# Altium schematic symbol library MY.SchLib: 652 symbols (part 3 of 7)
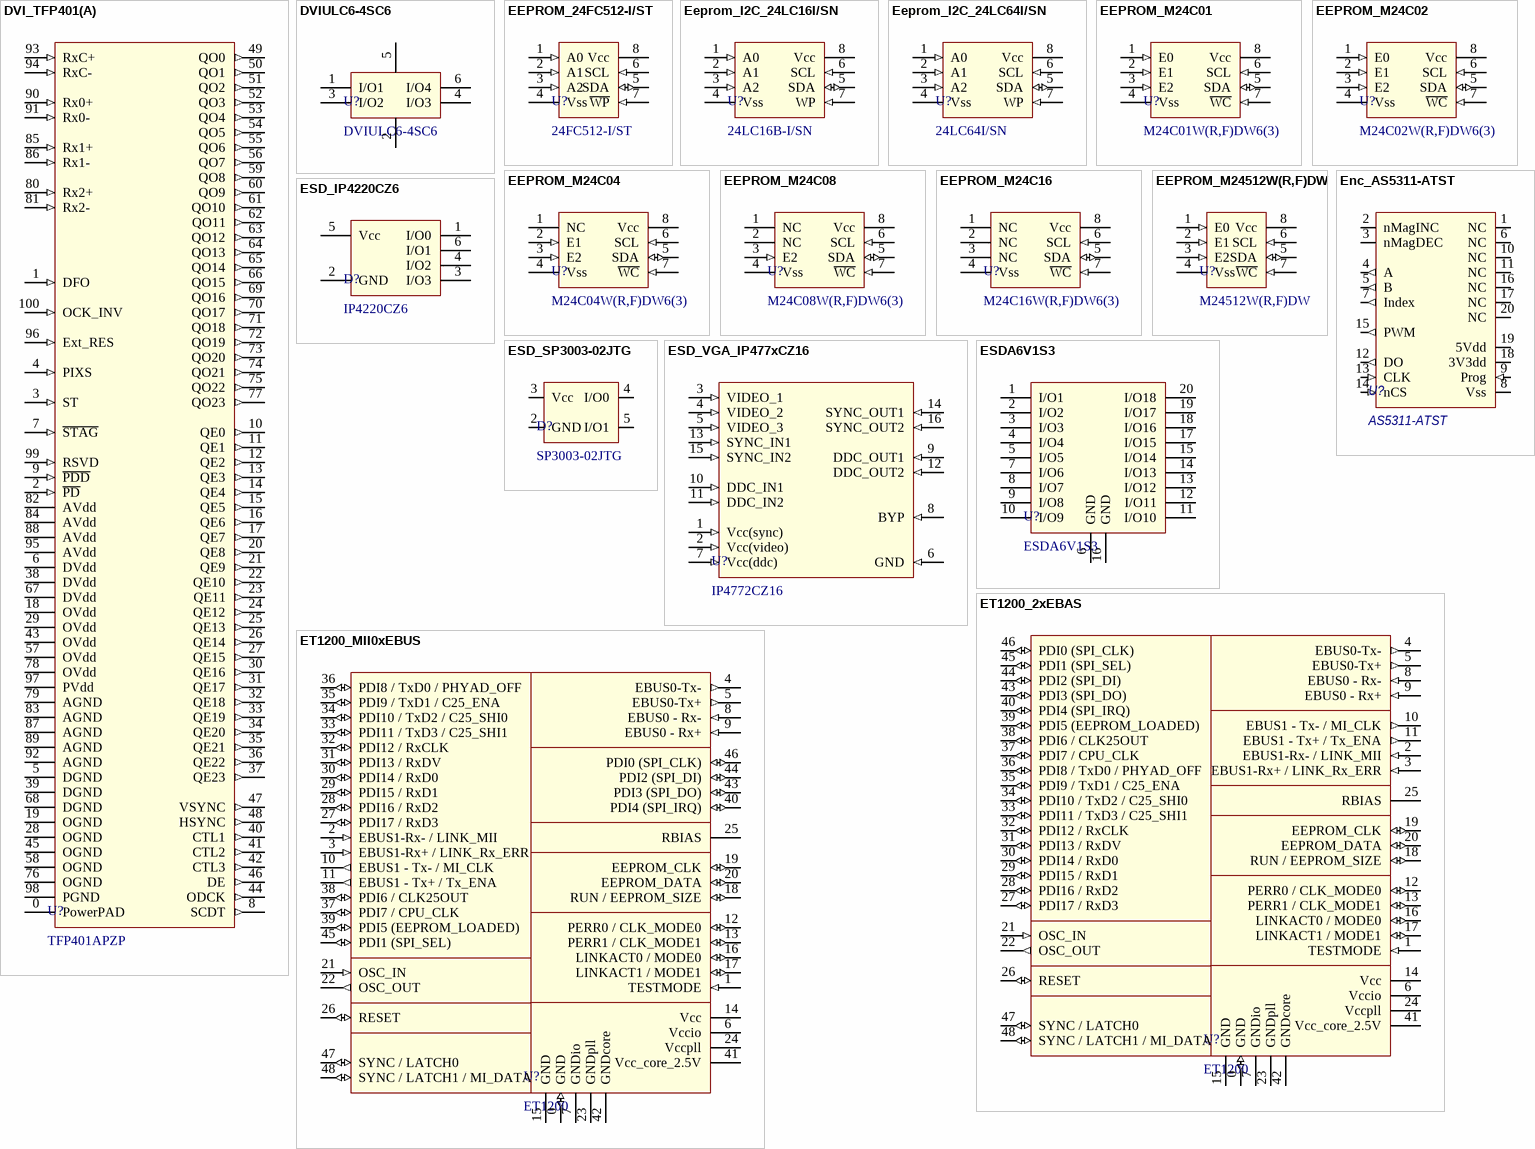
[diagram p43: symbols DVI_TFP401(A) to ET1200_MII0xEBUS]

## Eeprom_I2C_24LC16I/SN
designator U?, comment 24LC16B-I/SN
Analog: 24LC16BT-I/SN
footprint SO8
pins: 1 A0 (in), 2 A1 (in), 3 A2 (in), 4 Vss (power), 5 SDA (io), 6 SCL (in), 7 WP (in), 8 Vcc (power)

## Eeprom_I2C_24LC64I/SN
designator U?, comment 24LC64I/SN
footprint SO8
pins: 1 A0 (in), 2 A1 (in), 3 A2 (in), 4 Vss (power), 5 SDA (io), 6 SCL (in), 7 WP (in), 8 Vcc (power)

## EEPROM_M24C01
designator U?, comment M24C01W(R,F)DW6(3)
footprint TSSOP8
pins: 1 E0 (in), 2 E1 (in), 3 E2 (in), 4 Vss (power), 5 SDA (io), 6 SCL (in), 7 ~{WC} (in), 8 Vcc (power)

## EEPROM_M24C02
designator U?, comment M24C02W(R,F)DW6(3)
footprint TSSOP8
pins: 1 E0 (in), 2 E1 (in), 3 E2 (in), 4 Vss (power), 5 SDA (io), 6 SCL (in), 7 ~{WC} (in), 8 Vcc (power)

## EEPROM_M24C04
designator U?, comment M24C04W(R,F)DW6(3)
footprint TSSOP8
pins: 1 NC, 2 E1 (in), 3 E2 (in), 4 Vss (power), 5 SDA (io), 6 SCL (in), 7 ~{WC} (in), 8 Vcc (power)

## EEPROM_M24C08
designator U?, comment M24C08W(R,F)DW6(3)
Analog: M24512W(R,F)DW;
footprint TSSOP8
pins: 1 NC, 2 NC, 3 E2 (in), 4 Vss (power), 5 SDA (io), 6 SCL (in), 7 ~{WC} (in), 8 Vcc (power)

## EEPROM_M24C16
designator U?, comment M24C16W(R,F)DW6(3)
footprint TSSOP8
pins: 1 NC, 2 NC, 3 NC, 4 Vss (power), 5 SDA (io), 6 SCL (in), 7 ~{WC} (in), 8 Vcc (power)

## EEPROM_M24512W(R,F)DW
designator U?, comment M24512W(R,F)DW
I2C_address: 1010(e2e1e0);1011(e2e1e0);; HelpURL: L:\Dev\Техническая документация\Память\EEPROM\M24512W.pdf
footprint TSSOP8
pins: 1 E0 (in), 2 E1 (in), 3 E2 (in), 4 Vss (power), 5 SDA (io), 6 SCL (in), 7 ~{WC} (in), 8 Vcc (power)

## Enc_AS5311-ATST
designator U?, comment AS5311-ATST
HelpURL: L:\Dev\Техническая документация\Микросхемы энкодеров\AMS\as5311_datasheet.pdf; ComponentLink1Description: EK_UserManual; ComponentLink1URL: L:\Dev\Техническая документация\Микросхемы энкодеров\AMS\AS5311-TS_EK_AB_UserManual.pdf; ComponentLink2Description: MagnetSpecReference; ComponentLink2URL: L:\Dev\Техническая документация\Микросхемы энкодеров\AMS\AS5311_MagnetSpecification.pdf
footprint TSSOP20_AS5311
pins: 1 NC, 2 nMagINC (oc), 3 nMagDEC (oc), 4 A (out), 5 B (out), 6 NC, 7 Index (out), 8 Vss (power), 9 Prog (in), 10 NC, 11 NC, 12 DO (out), 13 CLK (in), 14 nCS (in), 15 PWM (out), 16 NC, 17 NC, 18 3V3dd (power), 19 5Vdd (power), 20 NC

## ESD_IP4220CZ6
designator D?, comment IP4220CZ6
HelpURL: L:\Dev\Техническая документация\Защита цепей\ESD\IP4220CZ6(USB).pdf
footprint SOT23-6
pins: 1 I/O0, 2 GND, 3 I/O3, 4 I/O2, 5 Vcc, 6 I/O1

## ESD_SP3003-02JTG
designator D?, comment SP3003-02JTG
HelpURL: L:\Unicont SPb\Equipment\Техническая документация\Защита цепей\ESD\IP4220CZ6(USB).pdf
footprint SC-70-5
pins: 1 hidden, 2 GND, 3 Vcc, 4 I/O0, 5 I/O1

## ESD_VGA_IP477xCZ16
designator U?, comment IP4772CZ16
HelpURL: L:\Unicont SPb\Equipment\Техническая документация\Защита цепей\ESD\IP4770_1_2_VGA.pdf
footprint SSOP16_SOT519-1_NXP
pins: 1 Vcc(sync) (in) "PCIe Graphics Enable, 3.3V", 2 Vcc(video) (in) "PCIe Graphics Enable, 3.3V", 3 VIDEO_1 (in) "PCIe Graphics Enable, 3.3V", 4 VIDEO_2 (in) "PCIe Graphics Enable, 3.3V", 5 VIDEO_3 (in) "PCIe Graphics Enable, 3.3V", 6 GND (in) "PCIe Graphics Enable, 3.3V", 7 Vcc(ddc) (in) "PCIe Graphics Enable, 3.3V", 8 BYP (in) "PCIe Graphics Enable, 3.3V", 9 DDC_OUT1 (in) "PCIe Graphics Enable, 3.3V", 10 DDC_IN1 (in) "PCIe Graphics Enable, 3.3V", 11 DDC_IN2 (in) "PCIe Graphics Enable, 3.3V", 12 DDC_OUT2 (in) "PCIe Graphics Enable, 3.3V", 13 SYNC_IN1 (in) "PCIe Graphics Enable, 3.3V", 14 SYNC_OUT1 (in) "PCIe Graphics Enable, 3.3V", 15 SYNC_IN2 (in) "PCIe Graphics Enable, 3.3V", 16 SYNC_OUT2 (in) "PCIe Graphics Enable, 3.3V"

## ESDA6V1S3
designator U?
Analog: BZA100
footprint SO20
pins: 1 I/O1, 2 I/O2, 3 I/O3, 4 I/O4, 5 I/O5, 6 GND, 7 I/O6, 8 I/O7, 9 I/O8, 10 I/O9, 11 I/O10, 12 I/O11, 13 I/O12, 14 I/O13, 15 I/O14, 16 GND, 17 I/O15, 18 I/O16, 19 I/O17, 20 I/O18

## ET1200_2xEBAS
designator U?, comment ET1200
footprint QFN48_ET1200
pins: 0 GND (io), 1 TESTMODE (in), 2 EBUS1-Rx- / LINK_MII (in), 3 EBUS1-Rx+ / LINK_Rx_ERR (in), 4 EBUS0-Tx- (out), 5 EBUS0-Tx+ (out), 6 Vccio (power), 7 GNDio (power), 8 EBUS0 - Rx- (in), 9 EBUS0 - Rx+ (in), 10 EBUS1 - Tx- / MI_CLK (out), 11 EBUS1 - Tx+ / Tx_ENA (out), 12 PERR0 / CLK_MODE0 (io), 13 PERR1 / CLK_MODE1 (io), 14 Vcc (power), 15 GND (power), 16 LINKACT0 / MODE0 (io), 17 LINKACT1 / MODE1 (io), 18 RUN / EEPROM_SIZE (io), 19 EEPROM_CLK (io), 20 EEPROM_DATA (io), 21 OSC_IN (in), 22 OSC_OUT (out), 23 GNDpll (power), 24 Vccpll (power), 25 RBIAS (power), 26 RESET (io), 27 PDI17 / RxD3 (io), 28 PDI16 / RxD2 (io), 29 PDI15 / RxD1 (io), 30 PDI14 / RxD0 (io), 31 PDI13 / RxDV (io), 32 PDI12 / RxCLK (io), 33 PDI11 / TxD3 / C25_SHI1 (io), 34 PDI10 / TxD2 / C25_SHI0 (io), 35 PDI9 / TxD1 / C25_ENA (io), 36 PDI8 / TxD0 / PHYAD_OFF (io), 37 PDI7 / CPU_CLK (io), 38 PDI6 / CLK25OUT (io), 39 PDI5 (EEPROM_LOADED) (io), 40 PDI4 (SPI_IRQ) (io), 41 Vcc_core_2.5V (power), 42 GNDcore (power), 43 PDI3 (SPI_DO) (io), 44 PDI2 (SPI_DI) (io), 45 PDI1 (SPI_SEL) (io), 46 PDI0 (SPI_CLK) (io), 47 SYNC / LATCH0 (io), 48 SYNC / LATCH1 / MI_DATA (io)

## ET1200_MII0xEBUS
designator U?, comment ET1200
footprint QFN48_ET1200
pins: 0 GND (io), 1 TESTMODE (in), 2 EBUS1-Rx- / LINK_MII (in), 3 EBUS1-Rx+ / LINK_Rx_ERR (in), 4 EBUS0-Tx- (out), 5 EBUS0-Tx+ (out), 6 Vccio (power), 7 GNDio (power), 8 EBUS0 - Rx- (in), 9 EBUS0 - Rx+ (in), 10 EBUS1 - Tx- / MI_CLK (out), 11 EBUS1 - Tx+ / Tx_ENA (out), 12 PERR0 / CLK_MODE0 (io), 13 PERR1 / CLK_MODE1 (io), 14 Vcc (power), 15 GND (power), 16 LINKACT0 / MODE0 (io), 17 LINKACT1 / MODE1 (io), 18 RUN / EEPROM_SIZE (io), 19 EEPROM_CLK (io), 20 EEPROM_DATA (io), 21 OSC_IN (in), 22 OSC_OUT (out), 23 GNDpll (power), 24 Vccpll (power), 25 RBIAS (power), 26 RESET (io), 27 PDI17 / RxD3 (io), 28 PDI16 / RxD2 (io), 29 PDI15 / RxD1 (io), 30 PDI14 / RxD0 (io), 31 PDI13 / RxDV (io), 32 PDI12 / RxCLK (io), 33 PDI11 / TxD3 / C25_SHI1 (io), 34 PDI10 / TxD2 / C25_SHI0 (io), 35 PDI9 / TxD1 / C25_ENA (io), 36 PDI8 / TxD0 / PHYAD_OFF (io), 37 PDI7 / CPU_CLK (io), 38 PDI6 / CLK25OUT (io), 39 PDI5 (EEPROM_LOADED) (io), 40 PDI4 (SPI_IRQ) (io), 41 Vcc_core_2.5V (power), 42 GNDcore (power), 43 PDI3 (SPI_DO) (io), 44 PDI2 (SPI_DI) (io), 45 PDI1 (SPI_SEL) (io), 46 PDI0 (SPI_CLK) (io), 47 SYNC / LATCH0 (io), 48 SYNC / LATCH1 / MI_DATA (io)

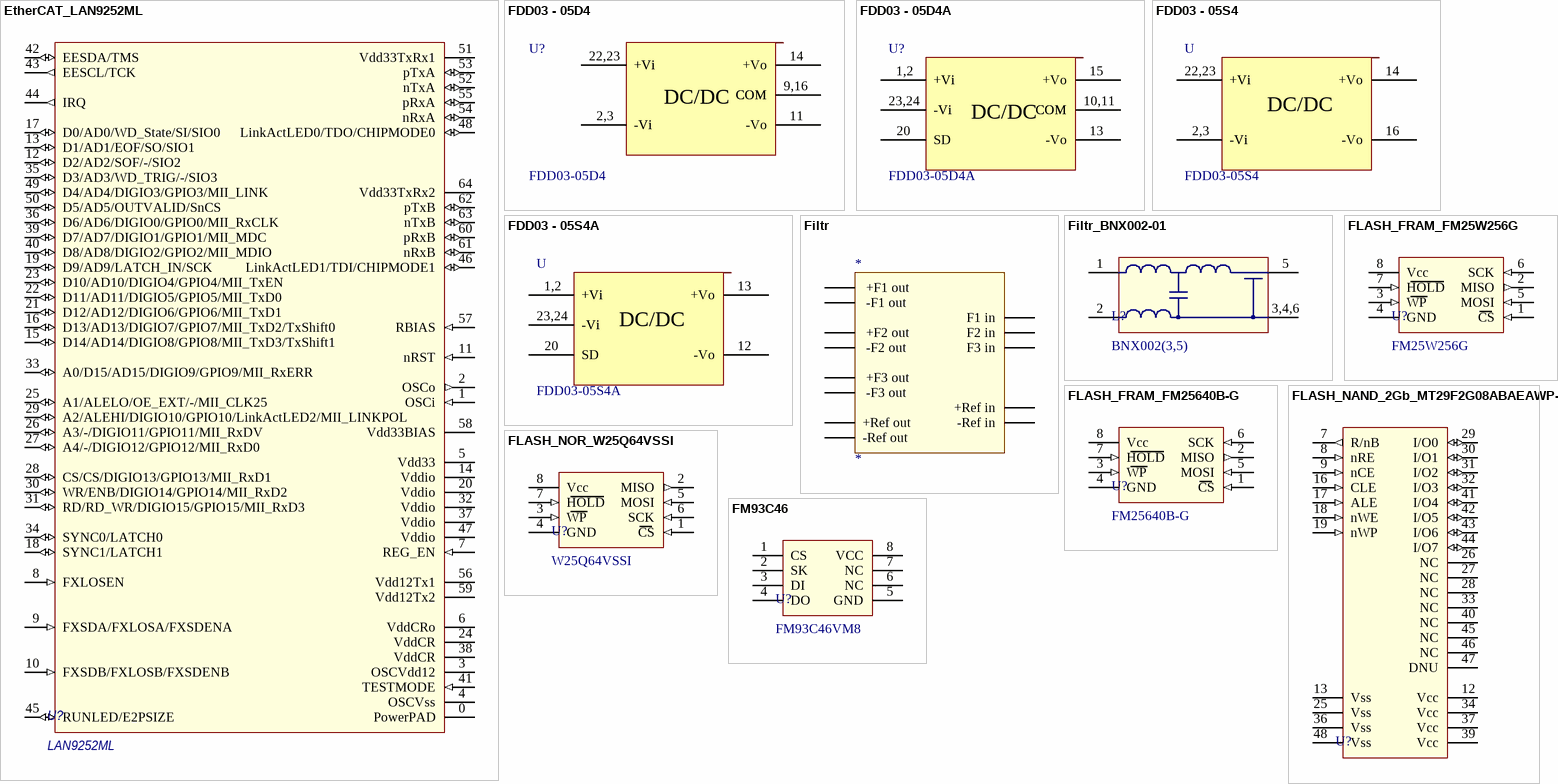
[diagram p12: symbols EtherCAT_LAN9252ML to FM93C46]

## EtherCAT_LAN9252ML
designator U?, comment LAN9252ML
HelpURL: L:\Dev\Техническая документация\Интерфейсы\EtherCAT\Microchip\LAN9252_datasheet.pdf; ComponentLink1Description: Datasheet; ComponentLink2Description: Schematic HBI INDXED; ComponentLink3Description: Schematic HBI MULTIPLEXED; ComponentLink4Description: Schematic EVB; ComponentLink5Description: Migrating FromET1100; ComponentLink6Description: Schematic SPI_GPIO; ComponentLink7Description: Porting Guide Lines; ComponentLink1URL: L:\Dev\Техническая документация\Интерфейсы\EtherCAT\Microchip\LAN9252_datasheet.pdf; ComponentLink2URL: L:\Dev\Техническая документация\Интерфейсы\EtherCAT\Microchip\Schematic_LAN9252.HBI.INDXED.MODE.REV.A.pdf; ComponentLink3URL: L:\Dev\Техническая документация\Интерфейсы\EtherCAT\Microchip\Schematic_LAN9252.HBI.MULTIPLEXED.MODE.REV.A.pdf; ComponentLink4URL: L:\Dev\Техническая документация\Интерфейсы\EtherCAT\Microchip\Schematic_EVB_lan9252-hbi&spi+gpio-evb-rev-b.pdf; ComponentLink5URL: L:\Dev\Техническая документация\Интерфейсы\EtherCAT\Microchip\LAN9252_migr.FromET1100_AN1907.pdf; ComponentLink7URL: L:\Dev\Техническая документация\Интерфейсы\EtherCAT\Microchip\LAN9252_PortingGuidelines_AN1995.pdf; ComponentLink6URL: L:\Dev\Техническая документация\Интерфейсы\EtherCAT\Microchip\Schematic_LAN9252.SPI.SQI+GPIO16.Mode.Rev.A.pdf
footprint QFN64
pins: 0 PowerPAD (power), 1 OSCi (in), 2 OSCo (out), 3 OSCVdd12 (power), 4 OSCVss (power), 5 Vdd33 (power), 6 VddCRo (power), 7 REG_EN (in), 8 FXLOSEN (in), 9 FXSDA/FXLOSA/FXSDENA (in), 10 FXSDB/FXLOSB/FXSDENB (in), 11 nRST (in), 12 D2/AD2/SOF/-/SIO2 (io), 13 D1/AD1/EOF/SO/SIO1 (io), 14 Vddio (power), 15 D14/AD14/DIGIO8/GPIO8/MII_TxD3/TxShift1 (io), 16 D13/AD13/DIGIO7/GPIO7/MII_TxD2/TxShift0 (io), 17 D0/AD0/WD_State/SI/SIO0 (io), 18 SYNC1/LATCH1 (io), 19 D9/AD9/LATCH_IN/SCK (io), 20 Vddio (power), 21 D12/AD12/DIGIO6/GPIO6/MII_TxD1 (io), 22 D11/AD11/DIGIO5/GPIO5/MII_TxD0 (io), 23 D10/AD10/DIGIO4/GPIO4/MII_TxEN (io), 24 VddCR (power), 25 A1/ALELO/OE_EXT/-/MII_CLK25 (io), 26 A3/-/DIGIO11/GPIO11/MII_RxDV (io), 27 A4/-/DIGIO12/GPIO12/MII_RxD0 (io), 28 CS/CS/DIGIO13/GPIO13/MII_RxD1 (io), 29 A2/ALEHI/DIGIO10/GPIO10/LinkActLED2/MII_LINKPOL (io), 30 WR/ENB/DIGIO14/GPIO14/MII_RxD2 (io), 31 RD/RD_WR/DIGIO15/GPIO15/MII_RxD3 (io), 32 Vddio (power), 33 A0/D15/AD15/DIGIO9/GPIO9/MII_RxERR (io), 34 SYNC0/LATCH0 (io), 35 D3/AD3/WD_TRIG/-/SIO3 (io), 36 D6/AD6/DIGIO0/GPIO0/MII_RxCLK (io), 37 Vddio (power), 38 VddCR (power), 39 D7/AD7/DIGIO1/GPIO1/MII_MDC (io), 40 D8/AD8/DIGIO2/GPIO2/MII_MDIO (io), 41 TESTMODE (in), 42 EESDA/TMS (io), 43 EESCL/TCK (out), 44 IRQ (out), 45 RUNLED/E2PSIZE (io), 46 LinkActLED1/TDI/CHIPMODE1 (io), 47 Vddio (power), 48 LinkActLED0/TDO/CHIPMODE0 (io), 49 D4/AD4/DIGIO3/GPIO3/MII_LINK (io), 50 D5/AD5/OUTVALID/SnCS (io), 51 Vdd33TxRx1 (power), 52 nTxA (io), 53 pTxA (io), 54 nRxA (io), 55 pRxA (io), 56 Vdd12Tx1 (power), 57 RBIAS (in), 58 Vdd33BIAS (power), 59 Vdd12Tx2 (power), 60 pRxB (io), 61 nRxB (io), 62 pTxB (io), 63 nTxB (io), 64 Vdd33TxRx2

## FDD03 - 05D4
designator U?, comment FDD03-05D4
footprint FDD-04
pins: 2 -Vi, 3 -Vi, 9 COM, 11 -Vo, 14 +Vo, 16 COM, 22 +Vi, 23 +Vi
text: 22,23; 9,16; DC/DC; 2,3

## FDD03 - 05D4A
designator U?, comment FDD03-05D4A
footprint FDD-04A
pins: 1 +Vi, 2 +Vi, 10 COM, 11 COM, 13 -Vo, 15 +Vo, 20 SD, 23 -Vi, 24 -Vi
text: 1,2; 23,24; 10,11; DC/DC

## FDD03 - 05S4
designator U, comment FDD03-05S4
footprint FDD-04
pins: 2 -Vi, 3 -Vi, 14 +Vo, 16 -Vo, 22 +Vi, 23 +Vi
text: 22,23; DC/DC; 2,3

## FDD03 - 05S4A
designator U, comment FDD03-05S4A
footprint FDD-04A
pins: 1 +Vi, 2 +Vi, 12 -Vo, 13 +Vo, 20 SD, 23 -Vi, 24 -Vi
text: 1,2; 23,24; DC/DC

## Filtr
designator *
pins: -Ref -Ref in, -Ref +Ref in, -Ref +Ref out, -Ref -Ref out, F1 F1 in, F2 F2 in, F3 F3 in, F4  +F1 out, F5  -F1 out, F6  -F2 out, F7  +F2 out, F8  -F3 out, F9  +F3 out

## Filtr_BNX002-01
designator L?, comment BNX002(3,5)
footprint Filtr_BNX00x
pins: 1 (power), 2 (power), 3 (power), 4 (power), 5 (power), 6 (power)
text: 3,4,6

## FLASH_FRAM_FM25W256G
designator U?, comment FM25W256G
Analog: AT25DF641MW(Atmel); M25P64-VME6 (Micron)
footprint SO8
pins: 1 CS (in), 2 MISO (out), 3 WP (in), 4 GND (power), 5 MOSI (in), 6 SCK (in), 7 HOLD (in), 8 Vcc (power)

## FLASH_FRAM_FM25640B-G
designator U?, comment FM25640B-G
Analog: FM25640B-GTR, Cypress; FM25640B-GTR, RAMTRON;; HelpURL: L:\Dev\Техническая документация\Память\FRAM Flash\FM25640B_64-Kbit_8_K_8_Serial_SPI_F-RAM_Datasheet.pdf
footprint SO8
pins: 1 CS (in), 2 MISO (out), 3 WP (in), 4 GND (power), 5 MOSI (in), 6 SCK (in), 7 HOLD (in), 8 Vcc (power)

## FLASH_NAND_2Gb_MT29F2G08ABAEAWP-IT
designator U?, comment MT29F2G08ABAEAWP-IT, Micron  (value not drawn)
Supply Current max(A): 0.035; Analog: MX30LF2G18AC-TI, Macronix; S34ML02G100TFI000, Cypress;; HelpURL: L:\Dev\Техническая документация\Память\NADN Flash\Micron_m69a_2gb_ecc_nand.pdf; Value: MT29F2G08ABAEAWP-IT; ComponentLink1Description: MX30LF2G18AC-TI, Macronix; ComponentLink2Description: S34ML02G100TFI000, Cypress;; ComponentLink1URL: L:\Dev\Техническая документация\Память\NADN Flash\Macronix_2_4gb_nand_MX30LFxG.pdf; ComponentLink2URL: L:\Dev\Техническая документация\Память\NADN Flash\Cypress_S34ML01G1_S34ML02G1_S34ML04G1_1_GB_2_GB_4_GB_3_V_SLC.pdf
footprint TSSOP-48_NAND_Type1
pins: 1 NC hidden, 2 NC hidden, 3 NC hidden, 4 NC hidden, 5 NC hidden, 6 NC hidden, 7 R/nB (out), 8 nRE (in), 9 nCE (in), 10 NC hidden, 11 NC hidden, 12 Vcc (power), 13 Vss (power), 14 NC hidden, 15 NC hidden, 16 CLE (in), 17 ALE (in), 18 nWE (in), 19 nWP (in), 20 NC hidden, 21 NC hidden, 22 NC hidden, 23 NC hidden, 24 NC hidden, 25 Vss (power), 26 NC, 27 NC, 28 NC, 29 I/O0 (io), 30 I/O1 (io), 31 I/O2 (io), 32 I/O3 (io), 33 NC, 34 Vcc (power), 35 NC hidden, 36 Vss (power), 37 Vcc (power), 38 DNU hidden, 39 Vcc (power), 40 NC, 41 I/O4 (io), 42 I/O5 (io), 43 I/O6 (io), 44 I/O7 (io), 45 NC, 46 NC, 47 DNU, 48 Vss (power)

## FLASH_NOR_W25Q64VSSI
designator U?, comment W25Q64VSSI
Analog: AT25DF641MW(Atmel); M25P64-VME6 (Micron)
footprint WSOP8
pins: 0 (power) hidden to GND, 1 CS (in), 2 MISO (out), 3 WP (in), 4 GND (power), 5 MOSI (in), 6 SCK (in), 7 HOLD (in), 8 Vcc (power)

## FM93C46
designator U?, comment FM93C46VM8
footprint SO8
pins: 1 CS, 2 SK, 3 DI, 4 DO, 5 GND, 6 NC, 7 NC, 8 VCC

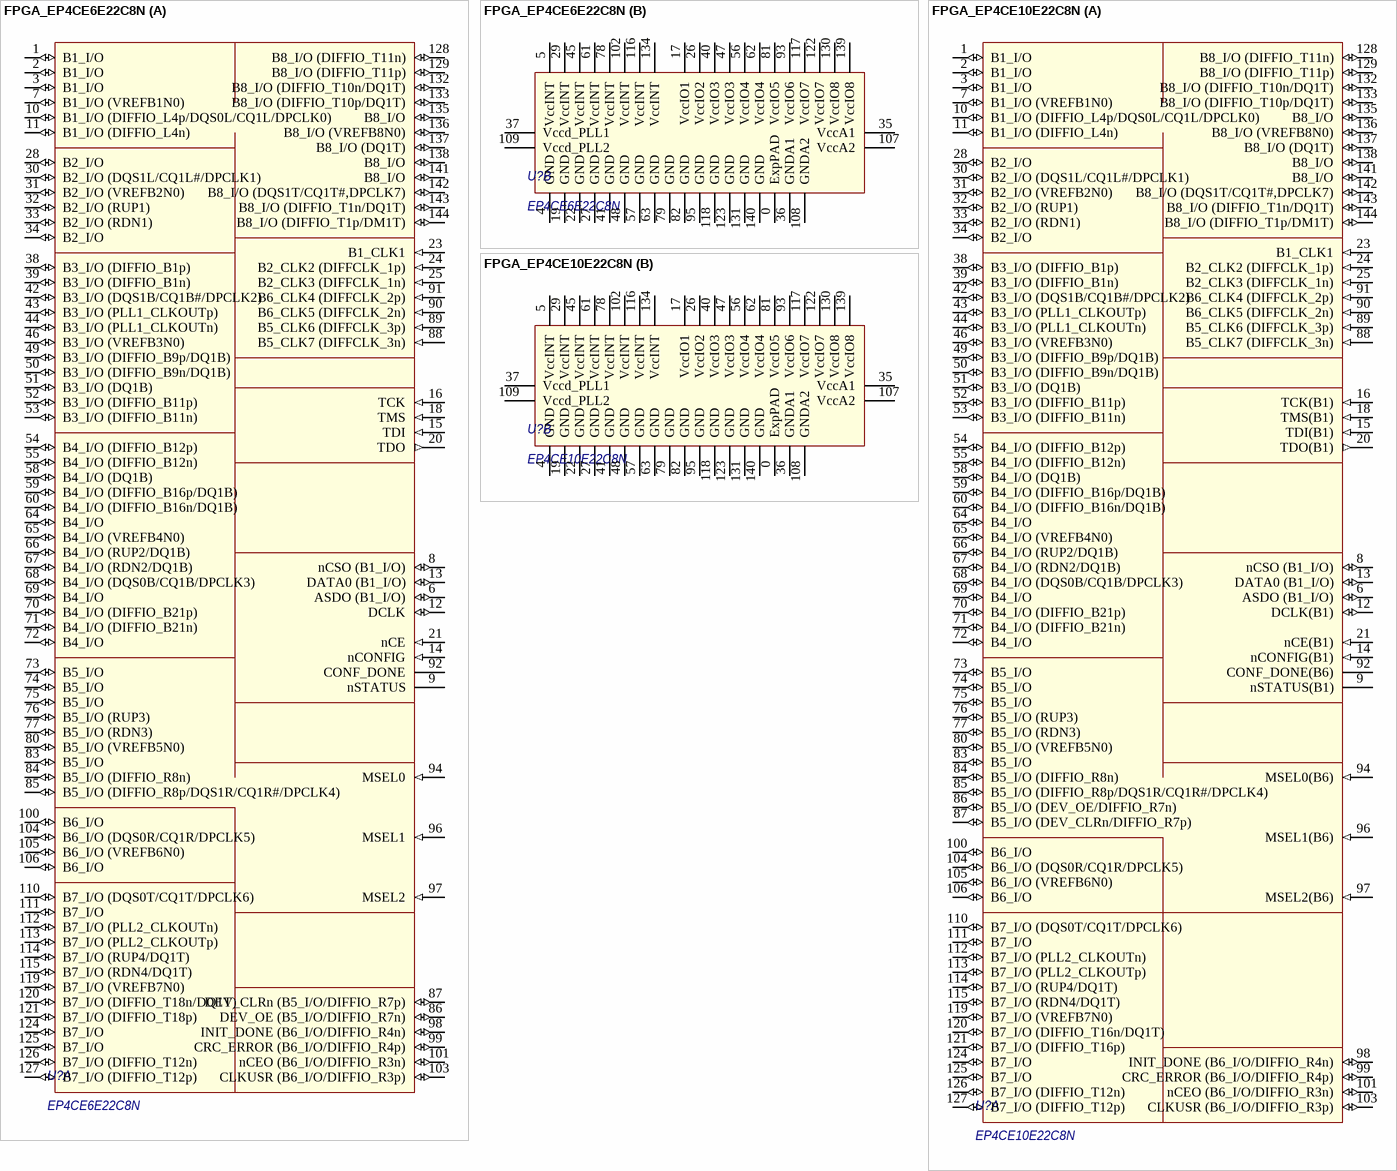
[diagram p13: symbols FPGA_EP4CE6E22C8N to FPGA_EP4CE10E22C8N]

## FPGA_EP4CE6E22C8N
designator U?, comment EP4CE6E22C8N
HelpURL: L:\Dev\Техническая документация\FPGA\Altera\Cyclone IV\Cyclone_IV_Device_Datasheet.pdf; ComponentLink1Description: Handbook; ComponentLink1URL: L:\Dev\Техническая документация\FPGA\Altera\Cyclone IV\Cyclone_IV_handbook.pdf; ComponentLink2Description: Overview; ComponentLink3Description: Pin Information; ComponentLink4Description: Pin Connection Guidelines; ComponentLink5Description: Design Guidelines; ComponentLink2URL: L:\Dev\Техническая документация\FPGA\Altera\Cyclone IV\cyclone_IV_overview.pdf; ComponentLink3URL: L:\Dev\Техническая документация\FPGA\Altera\Cyclone IV\Cyclone_IV_PinInformation.pdf; ComponentLink4URL: L:\Dev\Техническая документация\FPGA\Altera\Cyclone IV\Cyclone_IV_PinConnGuidelines.pdf; ComponentLink5URL: L:\Dev\Техническая документация\FPGA\Altera\Cyclone IV\Cyclone_IV_Design_Guidelines.pdf; ComponentLink6Description: Brief; ComponentLink7Description: Errata Sheet; ComponentLink8Description: Pin Out EP4CE6; ComponentLink6URL: L:\Dev\Техническая документация\FPGA\Altera\Cyclone IV\Cyclone_IV_brief.pdf; ComponentLink7URL: L:\Dev\Техническая документация\FPGA\Altera\Cyclone IV\Cyclone_IV_ErrataSheet.pdf; ComponentLink8URL: L:\Dev\Техническая документация\FPGA\Altera\Cyclone IV\EP4CE6\PinOut_ep4ce6.pdf; ComponentLink9Description: Serial Configuration Devices; ComponentLink9URL: L:\Dev\Техническая документация\FPGA\Altera\Cyclone IV\cyclone_IV_SerialConfigDevices.pdf; ComponentLink10Description: Package_144EQFP; ComponentLink10URL: L:\Dev\Техническая документация\FPGA\Altera\Package\144EQFP.pdf
footprint EQFP144_PPAD_UNICONT
part A pins: 1 B1_I/O (io), 2 B1_I/O (io), 3 B1_I/O (io), 6 ASDO (B1_I/O) (io), 7 B1_I/O (VREFB1N0) (io), 8 nCSO (B1_I/O) (io), 9 nSTATUS (oc), 10 B1_I/O (DIFFIO_L4p/DQS0L/CQ1L/DPCLK0) (io), 11 B1_I/O (DIFFIO_L4n) (io), 12 DCLK (io), 13 DATA0 (B1_I/O) (io), 14 nCONFIG (in), 15 TDI (in), 16 TCK (in), 18 TMS (in), 20 TDO (out), 21 nCE (in), 23 B1_CLK1 (in), 24 B2_CLK2 (DIFFCLK_1p) (in), 25 B2_CLK3 (DIFFCLK_1n) (in), 28 B2_I/O (io), 30 B2_I/O (DQS1L/CQ1L#/DPCLK1) (io), 31 B2_I/O (VREFB2N0) (io), 32 B2_I/O (RUP1) (io), 33 B2_I/O (RDN1) (io), 34 B2_I/O (io), 38 B3_I/O (DIFFIO_B1p) (io), 39 B3_I/O (DIFFIO_B1n) (io), 42 B3_I/O (DQS1B/CQ1B#/DPCLK2) (io), 43 B3_I/O (PLL1_CLKOUTp) (io), 44 B3_I/O (PLL1_CLKOUTn) (io), 46 B3_I/O (VREFB3N0) (io), 49 B3_I/O (DIFFIO_B9p/DQ1B) (io), 50 B3_I/O (DIFFIO_B9n/DQ1B) (io), 51 B3_I/O (DQ1B) (io), 52 B3_I/O (DIFFIO_B11p) (io), 53 B3_I/O (DIFFIO_B11n) (io), 54 B4_I/O (DIFFIO_B12p) (io), 55 B4_I/O (DIFFIO_B12n) (io), 58 B4_I/O (DQ1B) (io), 59 B4_I/O (DIFFIO_B16p/DQ1B) (io), 60 B4_I/O (DIFFIO_B16n/DQ1B) (io), 64 B4_I/O (io), 65 B4_I/O (VREFB4N0) (io), 66 B4_I/O (RUP2/DQ1B) (io), 67 B4_I/O (RDN2/DQ1B) (io), 68 B4_I/O (DQS0B/CQ1B/DPCLK3) (io), 69 B4_I/O (io), 70 B4_I/O (DIFFIO_B21p) (io), 71 B4_I/O (DIFFIO_B21n) (io), 72 B4_I/O (io), 73 B5_I/O (io), 74 B5_I/O (io), 75 B5_I/O (io), 76 B5_I/O (RUP3) (io), 77 B5_I/O (RDN3) (io), 80 B5_I/O (VREFB5N0) (io), 83 B5_I/O (io), 84 B5_I/O (DIFFIO_R8n) (io), 85 B5_I/O (DIFFIO_R8p/DQS1R/CQ1R#/DPCLK4) (io), 86 DEV_OE (B5_I/O/DIFFIO_R7n) (io), 87 DEV_CLRn (B5_I/O/DIFFIO_R7p) (io), 88 B5_CLK7 (DIFFCLK_3n) (in), 89 B5_CLK6 (DIFFCLK_3p) (in), 90 B6_CLK5 (DIFFCLK_2n) (in), 91 B6_CLK4 (DIFFCLK_2p) (in), 92 CONF_DONE (oc), 94 MSEL0 (in), 96 MSEL1 (in), 97 MSEL2 (in), 98 INIT_DONE (B6_I/O/DIFFIO_R4n) (io), 99 CRC_ERROR (B6_I/O/DIFFIO_R4p) (io), 100 B6_I/O (io), 101 nCEO (B6_I/O/DIFFIO_R3n) (io), 103 CLKUSR (B6_I/O/DIFFIO_R3p) (io), 104 B6_I/O (DQS0R/CQ1R/DPCLK5) (io), 105 B6_I/O (VREFB6N0) (io), 106 B6_I/O (io), 110 B7_I/O (DQS0T/CQ1T/DPCLK6) (io), 111 B7_I/O (io), 112 B7_I/O (PLL2_CLKOUTn) (io), 113 B7_I/O (PLL2_CLKOUTp) (io), 114 B7_I/O (RUP4/DQ1T) (io), 115 B7_I/O (RDN4/DQ1T) (io), 119 B7_I/O (VREFB7N0) (io), 120 B7_I/O (DIFFIO_T18n/DQ1T) (io), 121 B7_I/O (DIFFIO_T18p) (io), 124 B7_I/O (io), 125 B7_I/O (io), 126 B7_I/O (DIFFIO_T12n) (io), 127 B7_I/O (DIFFIO_T12p) (io), 128 B8_I/O (DIFFIO_T11n) (io), 129 B8_I/O (DIFFIO_T11p) (io), 132 B8_I/O (DIFFIO_T10n/DQ1T) (io), 133 B8_I/O (DIFFIO_T10p/DQ1T) (io), 135 B8_I/O (io), 136 B8_I/O (VREFB8N0) (io), 137 B8_I/O (DQ1T) (io), 138 B8_I/O (io), 141 B8_I/O (io), 142 B8_I/O (DQS1T/CQ1T#,DPCLK7) (io), 143 B8_I/O (DIFFIO_T1n/DQ1T) (io), 144 B8_I/O (DIFFIO_T1p/DM1T) (io)
part B pins: 0 ExpPAD, 4 GND (power), 5 VccINT (power), 17 VccIO1 (power), 19 GND (power), 22 GND (power), 26 VccIO2 (power), 27 GND (power), 29 VccINT (power), 35 VccA1 (power), 36 GNDA1 (power), 37 Vccd_PLL1 (power), 40 VccIO3 (power), 41 GND (power), 45 VccINT (power), 47 VccIO3 (power), 48 GND (power), 56 VccIO4 (power), 57 GND (power), 61 VccINT (power), 62 VccIO4 (power), 63 GND (power), 78 VccINT (power), 79 GND (power), 81 VccIO5 (power), 82 GND (power), 93 VccIO6 (power), 95 GND (power), 102 VccINT (power), 107 VccA2 (power), 108 GNDA2 (power), 109 Vccd_PLL2 (power), 116 VccINT (power), 117 VccIO7 (power), 118 GND (power), 122 VccIO7 (power), 123 GND (power), 130 VccIO8 (power), 131 GND (power), 134 VccINT (power), 139 VccIO8 (power), 140 GND (power)

## FPGA_EP4CE10E22C8N
designator U?, comment EP4CE10E22C8N
HelpURL: L:\Dev\Техническая документация\FPGA\Altera\Cyclone IV\Cyclone_IV_Device_Datasheet.pdf; ComponentLink1Description: Handbook; ComponentLink1URL: L:\Dev\Техническая документация\FPGA\Altera\Cyclone IV\Cyclone_IV_handbook.pdf; ComponentLink2Description: Overview; ComponentLink3Description: Pin Information; ComponentLink4Description: Pin Connection Guidelines; ComponentLink5Description: Design Guidelines; ComponentLink2URL: L:\Dev\Техническая документация\FPGA\Altera\Cyclone IV\cyclone_IV_overview.pdf; ComponentLink3URL: L:\Dev\Техническая документация\FPGA\Altera\Cyclone IV\Cyclone_IV_PinInformation.pdf; ComponentLink4URL: L:\Dev\Техническая документация\FPGA\Altera\Cyclone IV\Cyclone_IV_PinConnGuidelines.pdf; ComponentLink5URL: L:\Dev\Техническая документация\FPGA\Altera\Cyclone IV\Cyclone_IV_Design_Guidelines.pdf; ComponentLink6Description: Brief; ComponentLink7Description: Errata Sheet; ComponentLink8Description: Pin Out EP4CE10; ComponentLink6URL: L:\Dev\Техническая документация\FPGA\Altera\Cyclone IV\Cyclone_IV_brief.pdf; ComponentLink7URL: L:\Dev\Техническая документация\FPGA\Altera\Cyclone IV\Cyclone_IV_ErrataSheet.pdf; ComponentLink8URL: L:\Dev\Техническая документация\FPGA\Altera\Cyclone IV\EP4CE10\PinOut_ep4ce10.pdf; ComponentLink9Description: Serial Configuration Devices; ComponentLink9URL: L:\Dev\Техническая документация\FPGA\Altera\Cyclone IV\cyclone_IV_SerialConfigDevices.pdf; ComponentLink10Description: Package_144EQFP; ComponentLink10URL: L:\Dev\Техническая документация\FPGA\Altera\Package\144EQFP.pdf
footprint EQFP144_PPAD_UNICONT
part A pins: 1 B1_I/O (io), 2 B1_I/O (io), 3 B1_I/O (io), 6 ASDO (B1_I/O) (io), 7 B1_I/O (VREFB1N0) (io), 8 nCSO (B1_I/O) (io), 9 nSTATUS(B1) (oc), 10 B1_I/O (DIFFIO_L4p/DQS0L/CQ1L/DPCLK0) (io), 11 B1_I/O (DIFFIO_L4n) (io), 12 DCLK(B1) (io), 13 DATA0 (B1_I/O) (io), 14 nCONFIG(B1) (in), 15 TDI(B1) (in), 16 TCK(B1) (in), 18 TMS(B1) (in), 20 TDO(B1) (out), 21 nCE(B1) (in), 23 B1_CLK1 (in), 24 B2_CLK2 (DIFFCLK_1p) (in), 25 B2_CLK3 (DIFFCLK_1n) (in), 28 B2_I/O (io), 30 B2_I/O (DQS1L/CQ1L#/DPCLK1) (io), 31 B2_I/O (VREFB2N0) (io), 32 B2_I/O (RUP1) (io), 33 B2_I/O (RDN1) (io), 34 B2_I/O (io), 38 B3_I/O (DIFFIO_B1p) (io), 39 B3_I/O (DIFFIO_B1n) (io), 42 B3_I/O (DQS1B/CQ1B#/DPCLK2) (io), 43 B3_I/O (PLL1_CLKOUTp) (io), 44 B3_I/O (PLL1_CLKOUTn) (io), 46 B3_I/O (VREFB3N0) (io), 49 B3_I/O (DIFFIO_B9p/DQ1B) (io), 50 B3_I/O (DIFFIO_B9n/DQ1B) (io), 51 B3_I/O (DQ1B) (io), 52 B3_I/O (DIFFIO_B11p) (io), 53 B3_I/O (DIFFIO_B11n) (io), 54 B4_I/O (DIFFIO_B12p) (io), 55 B4_I/O (DIFFIO_B12n) (io), 58 B4_I/O (DQ1B) (io), 59 B4_I/O (DIFFIO_B16p/DQ1B) (io), 60 B4_I/O (DIFFIO_B16n/DQ1B) (io), 64 B4_I/O (io), 65 B4_I/O (VREFB4N0) (io), 66 B4_I/O (RUP2/DQ1B) (io), 67 B4_I/O (RDN2/DQ1B) (io), 68 B4_I/O (DQS0B/CQ1B/DPCLK3) (io), 69 B4_I/O (io), 70 B4_I/O (DIFFIO_B21p) (io), 71 B4_I/O (DIFFIO_B21n) (io), 72 B4_I/O (io), 73 B5_I/O (io), 74 B5_I/O (io), 75 B5_I/O (io), 76 B5_I/O (RUP3) (io), 77 B5_I/O (RDN3) (io), 80 B5_I/O (VREFB5N0) (io), 83 B5_I/O (io), 84 B5_I/O (DIFFIO_R8n) (io), 85 B5_I/O (DIFFIO_R8p/DQS1R/CQ1R#/DPCLK4) (io), 86 B5_I/O (DEV_OE/DIFFIO_R7n) (io), 87 B5_I/O (DEV_CLRn/DIFFIO_R7p) (io), 88 B5_CLK7 (DIFFCLK_3n) (in), 89 B5_CLK6 (DIFFCLK_3p) (in), 90 B6_CLK5 (DIFFCLK_2n) (in), 91 B6_CLK4 (DIFFCLK_2p) (in), 92 CONF_DONE(B6) (oc), 94 MSEL0(B6) (in), 96 MSEL1(B6) (in), 97 MSEL2(B6) (in), 98 INIT_DONE (B6_I/O/DIFFIO_R4n) (io), 99 CRC_ERROR (B6_I/O/DIFFIO_R4p) (io), 100 B6_I/O (io), 101 nCEO (B6_I/O/DIFFIO_R3n) (io), 103 CLKUSR (B6_I/O/DIFFIO_R3p) (io), 104 B6_I/O (DQS0R/CQ1R/DPCLK5) (io), 105 B6_I/O (VREFB6N0) (io), 106 B6_I/O (io), 110 B7_I/O (DQS0T/CQ1T/DPCLK6) (io), 111 B7_I/O (io), 112 B7_I/O (PLL2_CLKOUTn) (io), 113 B7_I/O (PLL2_CLKOUTp) (io), 114 B7_I/O (RUP4/DQ1T) (io), 115 B7_I/O (RDN4/DQ1T) (io), 119 B7_I/O (VREFB7N0) (io), 120 B7_I/O (DIFFIO_T16n/DQ1T) (io), 121 B7_I/O (DIFFIO_T16p) (io), 124 B7_I/O (io), 125 B7_I/O (io), 126 B7_I/O (DIFFIO_T12n) (io), 127 B7_I/O (DIFFIO_T12p) (io), 128 B8_I/O (DIFFIO_T11n) (io), 129 B8_I/O (DIFFIO_T11p) (io), 132 B8_I/O (DIFFIO_T10n/DQ1T) (io), 133 B8_I/O (DIFFIO_T10p/DQ1T) (io), 135 B8_I/O (io), 136 B8_I/O (VREFB8N0) (io), 137 B8_I/O (DQ1T) (io), 138 B8_I/O (io), 141 B8_I/O (io), 142 B8_I/O (DQS1T/CQ1T#,DPCLK7) (io), 143 B8_I/O (DIFFIO_T1n/DQ1T) (io), 144 B8_I/O (DIFFIO_T1p/DM1T) (io)
part B pins: 0 ExpPAD, 4 GND (power), 5 VccINT (power), 17 VccIO1 (power), 19 GND (power), 22 GND (power), 26 VccIO2 (power), 27 GND (power), 29 VccINT (power), 35 VccA1 (power), 36 GNDA1 (power), 37 Vccd_PLL1 (power), 40 VccIO3 (power), 41 GND (power), 45 VccINT (power), 47 VccIO3 (power), 48 GND (power), 56 VccIO4 (power), 57 GND (power), 61 VccINT (power), 62 VccIO4 (power), 63 GND (power), 78 VccINT (power), 79 GND (power), 81 VccIO5 (power), 82 GND (power), 93 VccIO6 (power), 95 GND (power), 102 VccINT (power), 107 VccA2 (power), 108 GNDA2 (power), 109 Vccd_PLL2 (power), 116 VccINT (power), 117 VccIO7 (power), 118 GND (power), 122 VccIO7 (power), 123 GND (power), 130 VccIO8 (power), 131 GND (power), 134 VccINT (power), 139 VccIO8 (power), 140 GND (power)

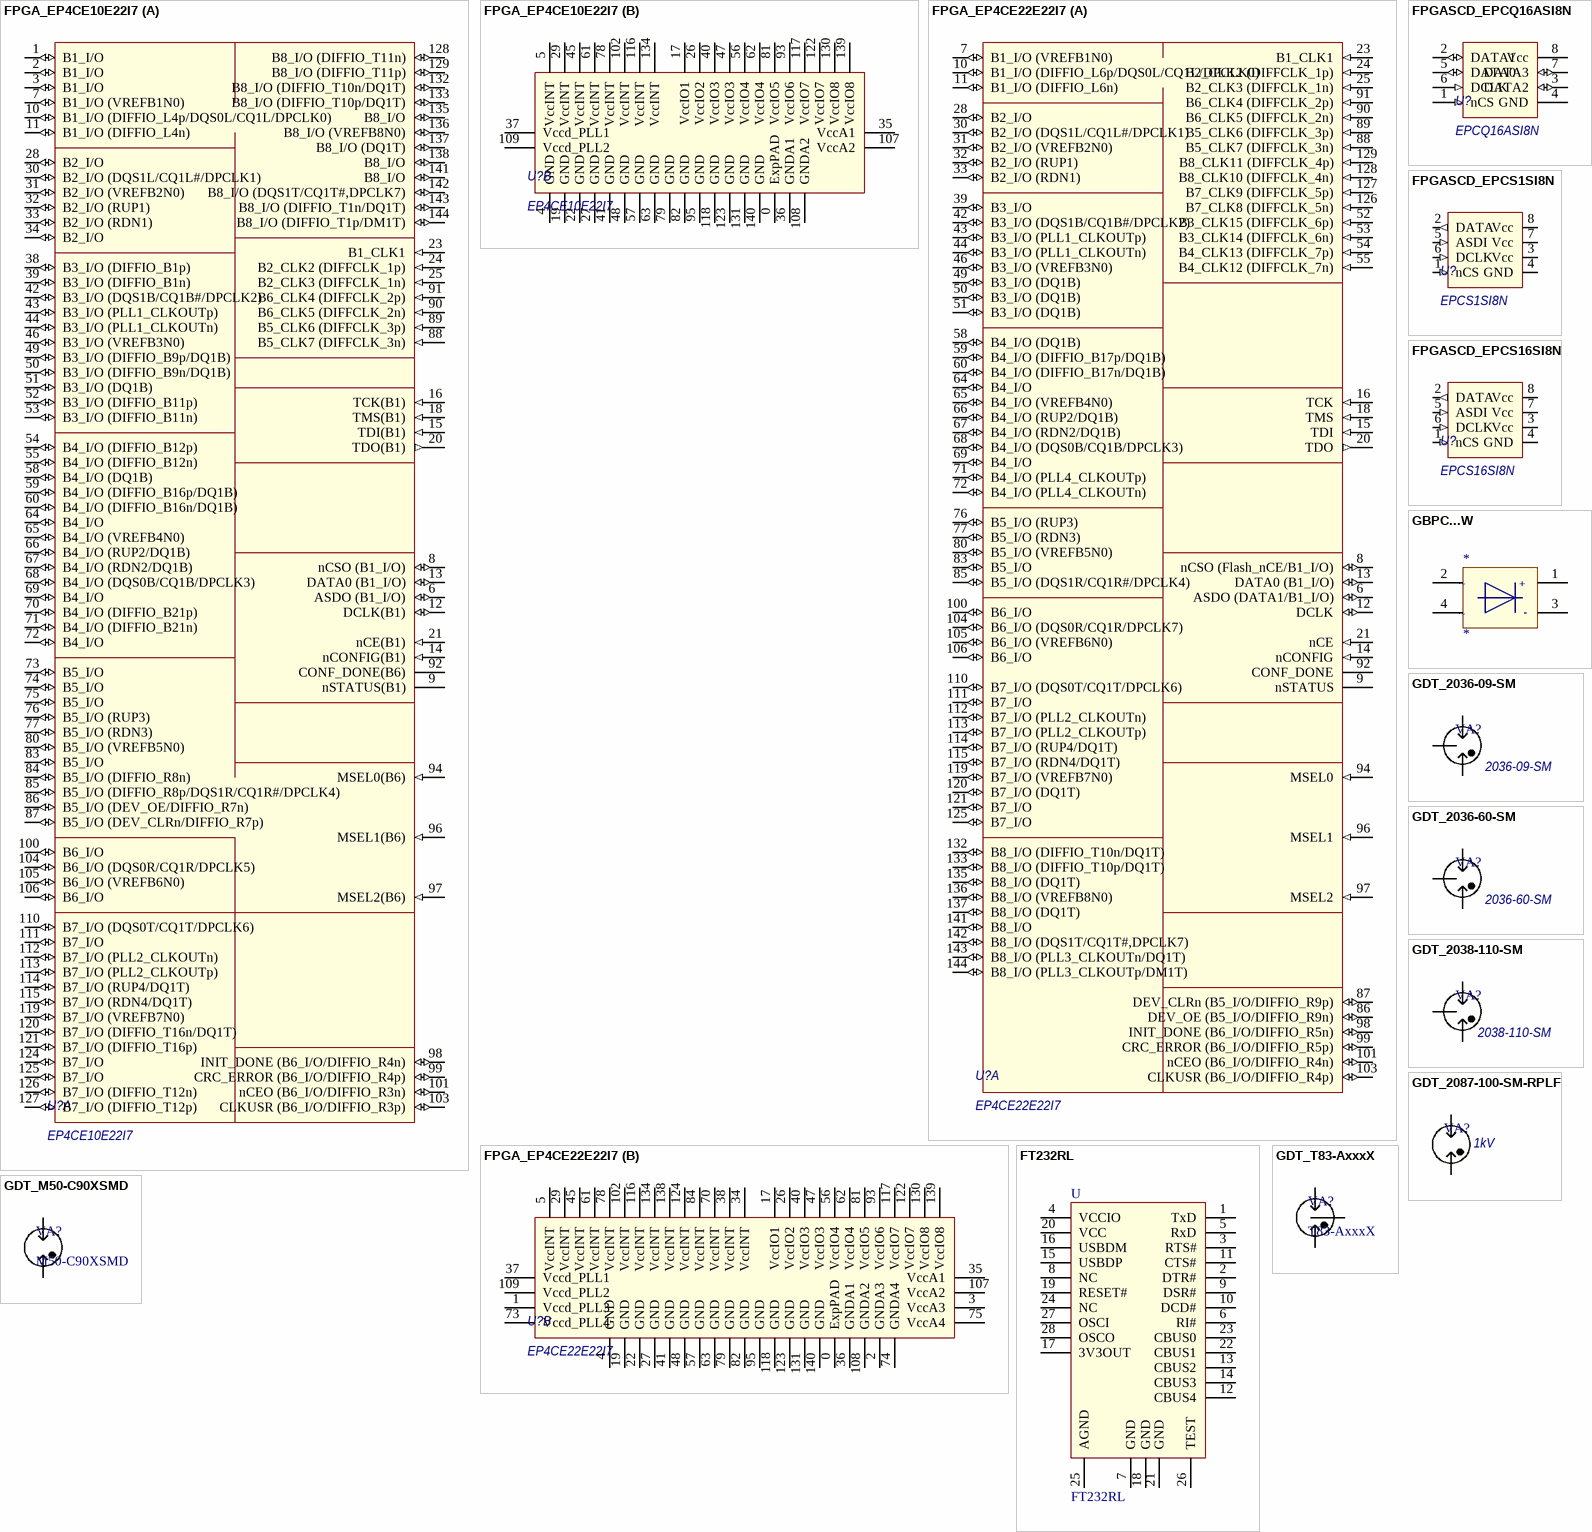
[diagram p14: symbols FPGA_EP4CE10E22I7 to GDT_T83-AxxxX]

## FPGA_EP4CE10E22I7
designator U?, comment EP4CE10E22I7
HelpURL: L:\Dev\Техническая документация\FPGA\Altera\Cyclone IV\Cyclone_IV_Device_Datasheet.pdf; ComponentLink1Description: Handbook; ComponentLink1URL: L:\Dev\Техническая документация\FPGA\Altera\Cyclone IV\Cyclone_IV_handbook.pdf; ComponentLink2Description: Overview; ComponentLink3Description: Pin Information; ComponentLink4Description: Pin Connection Guidelines; ComponentLink5Description: Design Guidelines; ComponentLink2URL: L:\Dev\Техническая документация\FPGA\Altera\Cyclone IV\cyclone_IV_overview.pdf; ComponentLink3URL: L:\Dev\Техническая документация\FPGA\Altera\Cyclone IV\Cyclone_IV_PinInformation.pdf; ComponentLink4URL: L:\Dev\Техническая документация\FPGA\Altera\Cyclone IV\Cyclone_IV_PinConnGuidelines.pdf; ComponentLink5URL: L:\Dev\Техническая документация\FPGA\Altera\Cyclone IV\Cyclone_IV_Design_Guidelines.pdf; ComponentLink6Description: Brief; ComponentLink7Description: Errata Sheet; ComponentLink8Description: Pin Out EP4CE10; ComponentLink6URL: L:\Dev\Техническая документация\FPGA\Altera\Cyclone IV\Cyclone_IV_brief.pdf; ComponentLink7URL: L:\Dev\Техническая документация\FPGA\Altera\Cyclone IV\Cyclone_IV_ErrataSheet.pdf; ComponentLink8URL: L:\Dev\Техническая документация\FPGA\Altera\Cyclone IV\EP4CE10\PinOut_ep4ce10.pdf; ComponentLink9Description: Serial Configuration Devices; ComponentLink9URL: L:\Dev\Техническая документация\FPGA\Altera\Cyclone IV\cyclone_IV_SerialConfigDevices.pdf; ComponentLink10Description: Package_144EQFP; ComponentLink10URL: L:\Dev\Техническая документация\FPGA\Altera\Package\144EQFP.pdf
footprint EQFP144_PPAD_UNICONT
part A pins: 1 B1_I/O (io), 2 B1_I/O (io), 3 B1_I/O (io), 6 ASDO (B1_I/O) (io), 7 B1_I/O (VREFB1N0) (io), 8 nCSO (B1_I/O) (io), 9 nSTATUS(B1) (oc), 10 B1_I/O (DIFFIO_L4p/DQS0L/CQ1L/DPCLK0) (io), 11 B1_I/O (DIFFIO_L4n) (io), 12 DCLK(B1) (io), 13 DATA0 (B1_I/O) (io), 14 nCONFIG(B1) (in), 15 TDI(B1) (in), 16 TCK(B1) (in), 18 TMS(B1) (in), 20 TDO(B1) (out), 21 nCE(B1) (in), 23 B1_CLK1 (in), 24 B2_CLK2 (DIFFCLK_1p) (in), 25 B2_CLK3 (DIFFCLK_1n) (in), 28 B2_I/O (io), 30 B2_I/O (DQS1L/CQ1L#/DPCLK1) (io), 31 B2_I/O (VREFB2N0) (io), 32 B2_I/O (RUP1) (io), 33 B2_I/O (RDN1) (io), 34 B2_I/O (io), 38 B3_I/O (DIFFIO_B1p) (io), 39 B3_I/O (DIFFIO_B1n) (io), 42 B3_I/O (DQS1B/CQ1B#/DPCLK2) (io), 43 B3_I/O (PLL1_CLKOUTp) (io), 44 B3_I/O (PLL1_CLKOUTn) (io), 46 B3_I/O (VREFB3N0) (io), 49 B3_I/O (DIFFIO_B9p/DQ1B) (io), 50 B3_I/O (DIFFIO_B9n/DQ1B) (io), 51 B3_I/O (DQ1B) (io), 52 B3_I/O (DIFFIO_B11p) (io), 53 B3_I/O (DIFFIO_B11n) (io), 54 B4_I/O (DIFFIO_B12p) (io), 55 B4_I/O (DIFFIO_B12n) (io), 58 B4_I/O (DQ1B) (io), 59 B4_I/O (DIFFIO_B16p/DQ1B) (io), 60 B4_I/O (DIFFIO_B16n/DQ1B) (io), 64 B4_I/O (io), 65 B4_I/O (VREFB4N0) (io), 66 B4_I/O (RUP2/DQ1B) (io), 67 B4_I/O (RDN2/DQ1B) (io), 68 B4_I/O (DQS0B/CQ1B/DPCLK3) (io), 69 B4_I/O (io), 70 B4_I/O (DIFFIO_B21p) (io), 71 B4_I/O (DIFFIO_B21n) (io), 72 B4_I/O (io), 73 B5_I/O (io), 74 B5_I/O (io), 75 B5_I/O (io), 76 B5_I/O (RUP3) (io), 77 B5_I/O (RDN3) (io), 80 B5_I/O (VREFB5N0) (io), 83 B5_I/O (io), 84 B5_I/O (DIFFIO_R8n) (io), 85 B5_I/O (DIFFIO_R8p/DQS1R/CQ1R#/DPCLK4) (io), 86 B5_I/O (DEV_OE/DIFFIO_R7n) (io), 87 B5_I/O (DEV_CLRn/DIFFIO_R7p) (io), 88 B5_CLK7 (DIFFCLK_3n) (in), 89 B5_CLK6 (DIFFCLK_3p) (in), 90 B6_CLK5 (DIFFCLK_2n) (in), 91 B6_CLK4 (DIFFCLK_2p) (in), 92 CONF_DONE(B6) (oc), 94 MSEL0(B6) (in), 96 MSEL1(B6) (in), 97 MSEL2(B6) (in), 98 INIT_DONE (B6_I/O/DIFFIO_R4n) (io), 99 CRC_ERROR (B6_I/O/DIFFIO_R4p) (io), 100 B6_I/O (io), 101 nCEO (B6_I/O/DIFFIO_R3n) (io), 103 CLKUSR (B6_I/O/DIFFIO_R3p) (io), 104 B6_I/O (DQS0R/CQ1R/DPCLK5) (io), 105 B6_I/O (VREFB6N0) (io), 106 B6_I/O (io), 110 B7_I/O (DQS0T/CQ1T/DPCLK6) (io), 111 B7_I/O (io), 112 B7_I/O (PLL2_CLKOUTn) (io), 113 B7_I/O (PLL2_CLKOUTp) (io), 114 B7_I/O (RUP4/DQ1T) (io), 115 B7_I/O (RDN4/DQ1T) (io), 119 B7_I/O (VREFB7N0) (io), 120 B7_I/O (DIFFIO_T16n/DQ1T) (io), 121 B7_I/O (DIFFIO_T16p) (io), 124 B7_I/O (io), 125 B7_I/O (io), 126 B7_I/O (DIFFIO_T12n) (io), 127 B7_I/O (DIFFIO_T12p) (io), 128 B8_I/O (DIFFIO_T11n) (io), 129 B8_I/O (DIFFIO_T11p) (io), 132 B8_I/O (DIFFIO_T10n/DQ1T) (io), 133 B8_I/O (DIFFIO_T10p/DQ1T) (io), 135 B8_I/O (io), 136 B8_I/O (VREFB8N0) (io), 137 B8_I/O (DQ1T) (io), 138 B8_I/O (io), 141 B8_I/O (io), 142 B8_I/O (DQS1T/CQ1T#,DPCLK7) (io), 143 B8_I/O (DIFFIO_T1n/DQ1T) (io), 144 B8_I/O (DIFFIO_T1p/DM1T) (io)
part B pins: 0 ExpPAD, 4 GND (power), 5 VccINT (power), 17 VccIO1 (power), 19 GND (power), 22 GND (power), 26 VccIO2 (power), 27 GND (power), 29 VccINT (power), 35 VccA1 (power), 36 GNDA1 (power), 37 Vccd_PLL1 (power), 40 VccIO3 (power), 41 GND (power), 45 VccINT (power), 47 VccIO3 (power), 48 GND (power), 56 VccIO4 (power), 57 GND (power), 61 VccINT (power), 62 VccIO4 (power), 63 GND (power), 78 VccINT (power), 79 GND (power), 81 VccIO5 (power), 82 GND (power), 93 VccIO6 (power), 95 GND (power), 102 VccINT (power), 107 VccA2 (power), 108 GNDA2 (power), 109 Vccd_PLL2 (power), 116 VccINT (power), 117 VccIO7 (power), 118 GND (power), 122 VccIO7 (power), 123 GND (power), 130 VccIO8 (power), 131 GND (power), 134 VccINT (power), 139 VccIO8 (power), 140 GND (power)

## FPGA_EP4CE22E22I7
designator U?, comment EP4CE22E22I7
HelpURL: L:\Dev\Техническая документация\FPGA\Altera\Cyclone IV\Cyclone_IV_Device_Datasheet.pdf; ComponentLink1Description: Handbook; ComponentLink1URL: L:\Dev\Техническая документация\FPGA\Altera\Cyclone IV\Cyclone_IV_handbook.pdf; ComponentLink2Description: Overview; ComponentLink3Description: Pin Information; ComponentLink4Description: Pin Connection Guidelines; ComponentLink5Description: Design Guidelines; ComponentLink2URL: L:\Dev\Техническая документация\FPGA\Altera\Cyclone IV\cyclone_IV_overview.pdf; ComponentLink3URL: L:\Dev\Техническая документация\FPGA\Altera\Cyclone IV\Cyclone_IV_PinInformation.pdf; ComponentLink4URL: L:\Dev\Техническая документация\FPGA\Altera\Cyclone IV\Cyclone_IV_PinConnGuidelines.pdf; ComponentLink5URL: L:\Dev\Техническая документация\FPGA\Altera\Cyclone IV\Cyclone_IV_Design_Guidelines.pdf; ComponentLink6Description: Brief; ComponentLink7Description: Errata Sheet; ComponentLink8Description: Pin Out EP4CE22; ComponentLink6URL: L:\Dev\Техническая документация\FPGA\Altera\Cyclone IV\Cyclone_IV_brief.pdf; ComponentLink7URL: L:\Dev\Техническая документация\FPGA\Altera\Cyclone IV\Cyclone_IV_ErrataSheet.pdf; ComponentLink8URL: L:\Dev\Техническая документация\FPGA\Altera\Cyclone IV\EP4CE22\PinOut_ep4ce22.pdf; ComponentLink9Description: Serial Configuration Devices; ComponentLink9URL: L:\Dev\Техническая документация\FPGA\Altera\Cyclone IV\cyclone_IV_SerialConfigDevices.pdf
footprint EQFP144_PPAD_UNICONT
part A pins: 6 ASDO (DATA1/B1_I/O) (io), 7 B1_I/O (VREFB1N0) (io), 8 nCSO (Flash_nCE/B1_I/O) (io), 9 nSTATUS (oc), 10 B1_I/O (DIFFIO_L6p/DQS0L/CQ1L/DPCLK0) (io), 11 B1_I/O (DIFFIO_L6n) (io), 12 DCLK (io), 13 DATA0 (B1_I/O) (io), 14 nCONFIG (in), 15 TDI (in), 16 TCK (in), 18 TMS (in), 20 TDO (out), 21 nCE (in), 23 B1_CLK1 (in), 24 B2_CLK2 (DIFFCLK_1p) (in), 25 B2_CLK3 (DIFFCLK_1n) (in), 28 B2_I/O (io), 30 B2_I/O (DQS1L/CQ1L#/DPCLK1) (io), 31 B2_I/O (VREFB2N0) (io), 32 B2_I/O (RUP1) (io), 33 B2_I/O (RDN1) (io), 39 B3_I/O (io), 42 B3_I/O (DQS1B/CQ1B#/DPCLK2) (io), 43 B3_I/O (PLL1_CLKOUTp) (io), 44 B3_I/O (PLL1_CLKOUTn) (io), 46 B3_I/O (VREFB3N0) (io), 49 B3_I/O (DQ1B) (io), 50 B3_I/O (DQ1B) (io), 51 B3_I/O (DQ1B) (io), 52 B3_CLK15 (DIFFCLK_6p) (in), 53 B3_CLK14 (DIFFCLK_6n) (in), 54 B4_CLK13 (DIFFCLK_7p) (in), 55 B4_CLK12 (DIFFCLK_7n) (in), 58 B4_I/O (DQ1B) (io), 59 B4_I/O (DIFFIO_B17p/DQ1B) (io), 60 B4_I/O (DIFFIO_B17n/DQ1B) (io), 64 B4_I/O (io), 65 B4_I/O (VREFB4N0) (io), 66 B4_I/O (RUP2/DQ1B) (io), 67 B4_I/O (RDN2/DQ1B) (io), 68 B4_I/O (DQS0B/CQ1B/DPCLK3) (io), 69 B4_I/O (io), 71 B4_I/O (PLL4_CLKOUTp) (io), 72 B4_I/O (PLL4_CLKOUTn) (io), 76 B5_I/O (RUP3) (io), 77 B5_I/O (RDN3) (io), 80 B5_I/O (VREFB5N0) (io), 83 B5_I/O (io), 85 B5_I/O (DQS1R/CQ1R#/DPCLK4) (io), 86 DEV_OE (B5_I/O/DIFFIO_R9n) (io), 87 DEV_CLRn (B5_I/O/DIFFIO_R9p) (io), 88 B5_CLK7 (DIFFCLK_3n) (in), 89 B5_CLK6 (DIFFCLK_3p) (in), 90 B6_CLK5 (DIFFCLK_2n) (in), 91 B6_CLK4 (DIFFCLK_2p) (in), 92 CONF_DONE (oc), 94 MSEL0 (in), 96 MSEL1 (in), 97 MSEL2 (in), 98 INIT_DONE (B6_I/O/DIFFIO_R5n) (io), 99 CRC_ERROR (B6_I/O/DIFFIO_R5p) (io), 100 B6_I/O (io), 101 nCEO (B6_I/O/DIFFIO_R4n) (io), 103 CLKUSR (B6_I/O/DIFFIO_R4p) (io), 104 B6_I/O (DQS0R/CQ1R/DPCLK7) (io), 105 B6_I/O (VREFB6N0) (io), 106 B6_I/O (io), 110 B7_I/O (DQS0T/CQ1T/DPCLK6) (io), 111 B7_I/O (io), 112 B7_I/O (PLL2_CLKOUTn) (io), 113 B7_I/O (PLL2_CLKOUTp) (io), 114 B7_I/O (RUP4/DQ1T) (io), 115 B7_I/O (RDN4/DQ1T) (io), 119 B7_I/O (VREFB7N0) (io), 120 B7_I/O (DQ1T) (io), 121 B7_I/O (io), 125 B7_I/O (io), 126 B7_CLK8 (DIFFCLK_5n) (in), 127 B7_CLK9 (DIFFCLK_5p) (in), 128 B8_CLK10 (DIFFCLK_4n) (in), 129 B8_CLK11 (DIFFCLK_4p) (in), 132 B8_I/O (DIFFIO_T10n/DQ1T) (io), 133 B8_I/O (DIFFIO_T10p/DQ1T) (io), 135 B8_I/O (DQ1T) (io), 136 B8_I/O (VREFB8N0) (io), 137 B8_I/O (DQ1T) (io), 141 B8_I/O (io), 142 B8_I/O (DQS1T/CQ1T#,DPCLK7) (io), 143 B8_I/O (PLL3_CLKOUTn/DQ1T) (io), 144 B8_I/O (PLL3_CLKOUTp/DM1T) (io)
part B pins: 0 ExpPAD, 1 Vccd_PLL3 (power), 2 GNDA3 (power), 3 VccA3 (power), 4 GND (power), 5 VccINT (power), 17 VccIO1 (power), 19 GND (power), 22 GND (power), 26 VccIO2 (power), 27 GND (power), 29 VccINT (power), 34 VccINT (power), 35 VccA1 (power), 36 GNDA1 (power), 37 Vccd_PLL1 (power), 38 VccINT (power), 40 VccIO3 (power), 41 GND (power), 45 VccINT (power), 47 VccIO3 (power), 48 GND (power), 56 VccIO4 (power), 57 GND (power), 61 VccINT (power), 62 VccIO4 (power), 63 GND (power), 70 VccINT (power), 73 Vccd_PLL4 (power), 74 GNDA4 (power), 75 VccA4 (power), 78 VccINT (power), 79 GND (power), 81 VccIO5 (power), 82 GND (power), 84 VccINT (power), 93 VccIO6 (power), 95 GND (power), 102 VccINT (power), 107 VccA2 (power), 108 GNDA2 (power), 109 Vccd_PLL2 (power), 116 VccINT (power), 117 VccIO7 (power), 118 GND (power), 122 VccIO7 (power), 123 GND (power), 124 VccINT (power), 130 VccIO8 (power), 131 GND (power), 134 VccINT (power), 138 VccINT (power), 139 VccIO8 (power), 140 GND (power)

## FPGASCD_EPCQ16ASI8N
designator U?, comment EPCQ16ASI8N
HelpURL: L:\Dev\Техническая документация\FPGA\Altera\Serial Configuration Devices\EPCQ-A_Series_SerialConfigurationDevice.pdf
footprint SO8
pins: 1 nCS (in), 2 DATA1 (io), 3 DATA2 (io), 4 GND (power), 5 DATA0 (io), 6 DCLK (in), 7 DATA3 (io), 8 Vcc (power)

## FPGASCD_EPCS1SI8N
designator U?, comment EPCS1SI8N
HelpURL: L:\Dev\Техническая документация\FPGA\Altera\Serial Configuration Devices\EPCS4-128.pdf
footprint SO8
pins: 1 nCS (in), 2 DATA (out), 3 Vcc (power), 4 GND (power), 5 ASDI (in), 6 DCLK (in), 7 Vcc (power), 8 Vcc (power)

## FPGASCD_EPCS16SI8N
designator U?, comment EPCS16SI8N
HelpURL: L:\Dev\Техническая документация\FPGA\Altera\Serial Configuration Devices\EPCS4-128.pdf
footprint SO8
pins: 1 nCS (in), 2 DATA (out), 3 Vcc (power), 4 GND (power), 5 ASDI (in), 6 DCLK (in), 7 Vcc (power), 8 Vcc (power)

## FT232RL
designator U
footprint SSOP28
pins: 1 TxD, 2 DTR#, 3 RTS#, 4 VCCIO, 5 RxD, 6 RI#, 7 GND, 8 NC, 9 DSR#, 10 DCD#, 11 CTS#, 12 CBUS4, 13 CBUS2, 14 CBUS3, 15 USBDP, 16 USBDM, 17 3V3OUT, 18 GND, 19 RESET#, 20 VCC, 21 GND, 22 CBUS1, 23 CBUS0, 24 NC, 25 AGND, 26 TEST, 27 OSCI, 28 OSCO

## GBPC...W
designator *
footprint GBPC...W
pins: 1, 2, 3, 4
text: ~; +; -

## GDT_2036-09-SM
designator VA?, comment value 2036-09-SM  (hidden comment: 2036-09-SM, Bourns)
HelpURL: L:\Dev\Техническая документация\Защита цепей\Разрядники\Bourns_2036-xx-SM.pdf
footprint GDT_2036-xx-SM_Bourns
pins: 1, 2, 3

## GDT_2036-60-SM
designator VA?, comment value 2036-60-SM  (hidden comment: 2036-60-SM, Bourns)
HelpURL: L:\Dev\Техническая документация\Защита цепей\Разрядники\Bourns_2036-xx-SM.pdf
footprint GDT_2036-xx-SM_Bourns
pins: 1, 2, 3

## GDT_2038-110-SM
designator VA?, comment value 2038-110-SM  (hidden comment: 2038-110-SM, Bourns)
DC Sparkover: 1100V; Price, $: 3
footprint GDT_2038-xx-SM_Bourns
pins: 1, 2, 3

## GDT_2087-100-SM-RPLF
designator VA?, comment value 1kV  (hidden comment: 2087-100-SM-RPLF, Bourns)
HelpURL: L:\Dev\Техническая документация\Защита цепей\Разрядники\bourns~2087.pdf
footprint Arr_2087_Bourns
pins: 1, 2

## GDT_M50-C90XSMD
designator VA?, comment M50-C90XSMD
footprint Arr_M50-C90XSMD
pins: 1, 2

## GDT_T83-AxxxX
designator VA?, comment T83-AxxxX
footprint Arr_T83-xxxxx
pins: 1, 2, 3

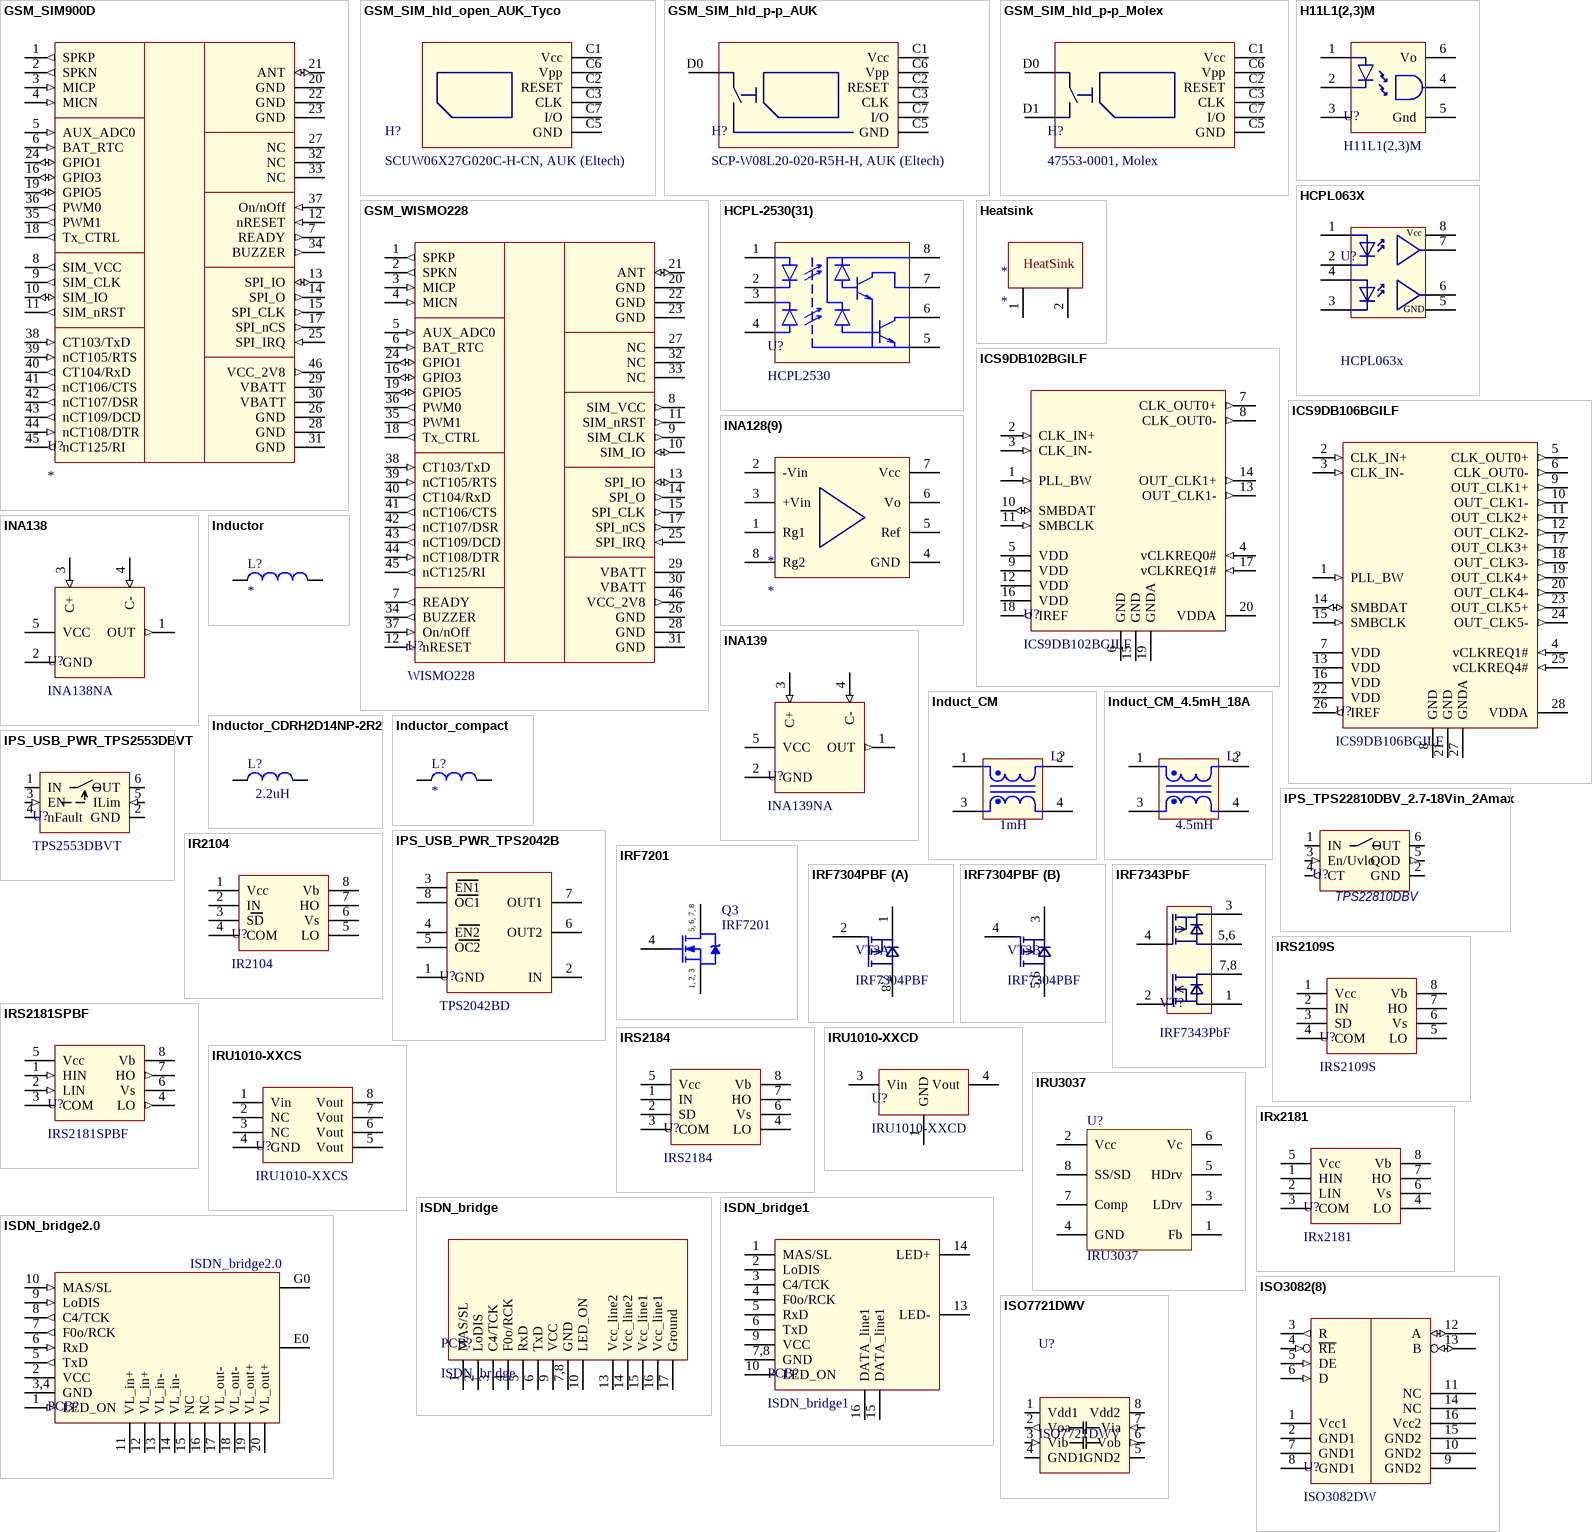
[diagram p15: symbols GSM_SIM900D to ISO7721DWV]

## GSM_SIM900D
designator U?
pins: 1 SPKP (out), 2 SPKN (out), 3 MICP (in), 4 MICN (in), 5 AUX_ADC0 (in), 6 BAT_RTC (in), 7 READY (out), 8 SIM_VCC (out), 9 SIM_CLK (out), 10 SIM_IO (io), 11 SIM_nRST (out), 12 nRESET (in), 13 SPI_IO (io), 14 SPI_O (out), 15 SPI_CLK (out), 16 GPIO3 (io), 17 SPI_nCS (out), 18 Tx_CTRL (out), 19 GPIO5 (io), 20 GND (power), 21 ANT (io), 22 GND (power), 23 GND (power), 24 GPIO1 (io), 25 SPI_IRQ (in), 26 GND (power), 27 NC, 28 GND (power), 29 VBATT (power), 30 VBATT (power), 31 GND (power), 32 NC, 33 NC, 34 BUZZER (out), 35 PWM1 (out), 36 PWM0 (out), 37 On/nOff (in), 38 CT103/TxD (in), 39 nCT105/RTS (in), 40 CT104/RxD (out), 41 nCT106/CTS (out), 42 nCT107/DSR (out), 43 nCT109/DCD (out), 44 nCT108/DTR (in), 45 nCT125/RI (out), 46 VCC_2V8 (out)

## GSM_SIM_hld_open_AUK_Tyco
designator H?, comment SCUW06X27G020C-H-CN, AUK (Eltech)
Analog: 6393699-1, Tyco;
footprint SIM_6393699-1_Tyco
pins: 0, C1 Vcc, C2 RESET, C3 CLK, C5 GND, C6 Vpp, C7 I/O

## GSM_SIM_hld_p-p_AUK
designator H?, comment SCP-W08L20-020-R5H-H, AUK (Eltech)
footprint SIM_HOLD_AUK_P-P_CD
pins: 0, C1 Vcc, C2 RESET, C3 CLK, C4 NC hidden, C5 GND, C6 Vpp, C7 I/O, C8 NC hidden, D0

## GSM_SIM_hld_p-p_Molex
designator H?, comment 47553-0001, Molex
footprint SIM_HOLD_Molex_P-P
pins: C1 Vcc, C2 RESET, C3 CLK, C5 GND, C6 Vpp, C7 I/O, D0, D1

## GSM_WISMO228
designator U?, comment WISMO228
footprint WISMO228
pins: 1 SPKP (out), 2 SPKN (out), 3 MICP (in), 4 MICN (in), 5 AUX_ADC0 (in), 6 BAT_RTC (in), 7 READY (out), 8 SIM_VCC (out), 9 SIM_CLK (out), 10 SIM_IO (io), 11 SIM_nRST (out), 12 nRESET (in), 13 SPI_IO (io), 14 SPI_O (out), 15 SPI_CLK (out), 16 GPIO3 (io), 17 SPI_nCS (out), 18 Tx_CTRL (out), 19 GPIO5 (io), 20 GND (power), 21 ANT (io), 22 GND (power), 23 GND (power), 24 GPIO1 (io), 25 SPI_IRQ (in), 26 GND (power), 27 NC, 28 GND (power), 29 VBATT (power), 30 VBATT (power), 31 GND (power), 32 NC, 33 NC, 34 BUZZER (out), 35 PWM1 (out), 36 PWM0 (out), 37 On/nOff (in), 38 CT103/TxD (in), 39 nCT105/RTS (in), 40 CT104/RxD (out), 41 nCT106/CTS (out), 42 nCT107/DSR (out), 43 nCT109/DCD (out), 44 nCT108/DTR (in), 45 nCT125/RI (out), 46 VCC_2V8 (out)

## H11L1(2,3)M
designator U?
footprint DIP6
pins: 1, 2, 3, 4, 5 Gnd, 6 Vo

## HCPL063X
designator U?, comment HCPL063x
footprint SO8
pins: 1 NC, 2 A, 3 C, 4 NC, 5 GND, 6 NC, 7 NC, 8 Vcc

## HCPL-2530(31)
designator U?, comment HCPL2530
footprint DIP8
pins: 1, 2, 3, 4, 5, 6, 7, 8

## Heatsink
designator *
pins: 1, 2
text: HeatSink

## ICS9DB102BGILF
designator U?
footprint TSSOP20
pins: 1 PLL_BW (in) "PCIe Graphics Enable, 3.3V", 2 CLK_IN+ (in), 3 CLK_IN- (in), 4 vCLKREQ0# (in), 5 VDD (power), 6 GND (power), 7 CLK_OUT0+ (out), 8 CLK_OUT0- (out), 9 VDD (power), 10 SMBDAT (io), 11 SMBCLK (in), 12 VDD (power), 13 OUT_CLK1- (out), 14 OUT_CLK1+ (out), 15 GND (power), 16 VDD (power), 17 vCLKREQ1# (in), 18 IREF (out), 19 GNDA (power), 20 VDDA (power)

## ICS9DB106BGILF
designator U?
footprint TSSOP20
pins: 1 PLL_BW (in) "PCIe Graphics Enable, 3.3V", 2 CLK_IN+ (in), 3 CLK_IN- (in), 4 vCLKREQ1# (in), 5 CLK_OUT0+ (out), 6 CLK_OUT0- (out), 7 VDD (power), 8 GND (power), 9 OUT_CLK1+ (out), 10 OUT_CLK1- (out), 11 OUT_CLK2+ (out), 12 OUT_CLK2- (out), 13 VDD (power), 14 SMBDAT (io), 15 SMBCLK (in), 16 VDD (power), 17 OUT_CLK3+ (out), 18 OUT_CLK3- (out), 19 OUT_CLK4+ (out), 20 OUT_CLK4- (out), 21 GND (power), 22 VDD (power), 23 OUT_CLK5+ (out), 24 OUT_CLK5- (out), 25 vCLKREQ4# (in), 26 IREF (out), 27 GNDA (power), 28 VDDA (power)

## INA128(9)
designator *
footprint SO8
pins: 1 Rg1, 2 -Vin, 3 +Vin, 4 GND (power), 5 Ref, 6 Vo, 7 Vcc (power), 8 Rg2

## INA138
designator U?, comment INA138NA
Analog: INA168AN (TI 60V)
footprint SOT23-5
pins: 1 OUT (out), 2 GND (power), 3 C+ (in), 4 C- (in), 5 VCC (power)

## INA139
designator U?, comment INA139NA
Analog: INA168AN (TI 60V)
footprint SOT23-5
pins: 1 OUT (out), 2 GND (power), 3 C+ (in), 4 C- (in), 5 VCC (power)

## Induct_CM
designator L?, comment value 1mH  (hidden comment: 7448262510-WE-CMB-XXL-25A-1mH)
footprint IND_WE_XXL_7448262510
pins: 1, 2, 3, 4
text: .

## Induct_CM_4.5mH_18A
designator L?, comment value 4.5mH  (hidden comment: 7448051804, WE)
Current: 18A
footprint IND_WE_XL_7448051804
pins: 1, 2, 3, 4
text: .

## Inductor
designator L?
simulation model Model Name (Model Description)
pins: 1, 2

## Inductor_CDRH2D14NP-2R2
designator L?, comment value 2.2uH  (hidden comment: CDRH2D14NP-2R2)
simulation model Model Name (Model Description)
footprint Induct_3.2x3.2_CDRH2D14
pins: 1, 2

## Inductor_compact
designator L?
simulation model Model Name (Model Description)
pins: 1, 2

## IPS_TPS22810DBV_2.7-18Vin_2Amax
designator U?, comment Name: TPS22810DBV  (hidden comment: TPS22810DBV(T,R))
HelpURL: L:\Dev\Техническая документация\Интеллектуальные ключи\2.7-18Vdc\tps22810_2.7-18Vin_3Amax.pdf
footprint SOT23-6
pins: 1 IN (power), 2 GND (power), 3 En/Uvlo (in), 4 CT (out), 5 QOD (out), 6 OUT (power)

## IPS_USB_PWR_TPS2042B
designator U?, comment TPS2042BD
HelpURL: L:\Unicont SPb\Equipment\Техническая документация\Интерфейсные микросхемы\USB\USB_pwr_distributor\tps2042b.pdf
footprint SO8
pins: 1 GND, 2 IN, 3 EN1, 4 EN2, 5 OC2, 6 OUT2, 7 OUT1, 8 OC1

## IPS_USB_PWR_TPS2553DBVT
designator U?, comment TPS2553DBVT
HelpURL: L:\Dev\Техническая документация\Интеллектуальные ключи\USB\tps2553.pdf
footprint SOT23-6
pins: 1 IN (power), 2 GND (power), 3 EN (in), 4 nFault (oc), 5 ILim (in), 6 OUT (power)

## IR2104
designator U?
footprint DIP8
pins: 1 Vcc, 2 IN, 3 SD, 4 COM, 5 LO, 6 Vs, 7 HO, 8 Vb

## IRF7201
designator Q3
HEXFET Power MOSFET; Published: 8-Jun-2000; LatestRevisionDate: 13-Apr-2006; LatestRevisionNote: IPC-7351 Footprint Added.; DatasheetVersion: Sep-1998; PackageVersion: Feb-2001; PackageReference: SO-8; Publisher: Altium Limited; PackageDescription: 8-Pin Plastic Small Outline Integrated Circuit 1.27 mm Pitch; Code_JEDEC: MS-012-AA; Code_IPC: SOIC127P600-8; ComponentLink1Description: Manufacturer Link; ComponentLink1URL: http://www.irf.com/; ComponentLink2Description: Datasheet; ComponentLink2URL: http://www.irf.com/product-info/datasheets/data/irf7201.pdf
footprint SO8
footprint SO-8_L (SOIC, 8-Leads, Body 4.9x3.9mm, Pitch 1.27mm, IPC High Density)
footprint SO-8_M (SOIC, 8-Leads, Body 4.9x3.9mm, Pitch 1.27mm, IPC Low Density)
3D model SO-8 (8-Pin Plastic Small Outline Integrated Circuit 1.27 mm Pitch)
simulation model IRF7201 (SUBCKT)
pins: 1 S, 2 S, 3 S, 4 G, 5 D, 6 D, 7 D, 8 D
text: 5, 6, 7, 8; 1, 2, 3

## IRF7304PBF
designator VT?
footprint SO8
part A pins: 1 S1, 2 G1, 7 D2, 8 D2
part B pins: 3 S2, 4 G2, 5 D1, 6 D1
part A text: 7,8
part B text: 5,6

## IRF7343PbF
designator VT?
footprint SO8
pins: 1 S1, 2 G1, 3 S2, 4 G2, 5 D1, 6 D1, 7 D2, 8 D2
text: 5,6; 7,8

## IRS2109S
designator U?
footprint SO8
pins: 1 Vcc, 2 IN, 3 SD, 4 COM, 5 LO, 6 Vs, 7 HO, 8 Vb

## IRS2181SPBF
designator U?
Analog: AUIRS2184S, IRF; IR2184S, IRF;
footprint SO8
pins: 1 HIN (in), 2 LIN (in), 3 COM (power), 4 LO (out), 5 Vcc (power), 6 Vs (power), 7 HO (out), 8 Vb (power)

## IRS2184
designator U?
footprint DIP8
pins: 1 IN, 2 SD, 3 COM, 4 LO, 5 Vcc, 6 Vs, 7 HO, 8 Vb

## IRU1010-XXCD
designator U?
footprint D-PAK
pins: 1 GND, 3 Vin, 4 Vout

## IRU1010-XXCS
designator U?
footprint SO8
pins: 1 Vin, 2 NC, 3 NC, 4 GND, 5 Vout, 6 Vout, 7 Vout, 8 Vout

## IRU3037
designator U?
footprint SO8
pins: 1 Fb, 2 Vcc, 3 LDrv, 4 GND, 5 HDrv, 6 Vc, 7 Comp, 8 SS/SD

## IRx2181
designator U?
footprint DIP8
pins: 1 HIN, 2 LIN, 3 COM, 4 LO, 5 Vcc, 6 Vs, 7 HO, 8 Vb

## ISDN_bridge
designator PCB?
footprint ISDN_bridge
pins: 1 MAS/SL, 2 LoDIS, 3 C4/TCK, 4 F0o/RCK, 5 RxD, 6 TxD, 7 GND, 8 GND, 9 VCC (power), 10 LED_ON (power), 13 Vcc_line2, 14 Vcc_line2, 15 Vcc_line1, 16 Vcc_line1, 17 Ground
text: 7,8

## ISDN_bridge1
designator PCB?
footprint ISDN_bridge1
pins: 1 MAS/SL, 2 LoDIS, 3 C4/TCK, 4 F0o/RCK, 5 RxD, 6 TxD, 7 GND, 8 GND, 9 VCC (power), 10 LED_ON (power), 13 LED-, 14 LED+, 15 DATA_line1, 16 DATA_line1
text: 7,8

## ISDN_bridge2.0
designator PCB?, comment value ISDN_bridge2.0  (hidden comment: J1,PBD-10; J2,PBD-10)
footprint ISDN_bridge_2.x
pins: 1 LED_ON (in), 2 VCC, 3 GND, 4 GND, 5 TxD (out), 6 RxD (in), 7 F0o/RCK (out), 8 C4/TCK (out), 9 LoDIS (in), 10 MAS/SL (in), 11 VL_in+, 12 VL_in+, 13 VL_in-, 14 VL_in-, 15 NC, 16 NC, 17 VL_out-, 18 VL_out-, 19 VL_out+, 20 VL_out+, E0 Earth (power), G0 GND (power)
text: 3,4

## ISO3082(8)
designator U?, comment ISO3082DW
footprint SOW16
pins: 1 Vcc1 (power), 2 GND1 (power), 3 R (out), 4 ~{RE} (in), 5 DE (in), 6 D (in), 7 GND1 (power), 8 GND1 (power), 9 GND2 (power), 10 GND2 (power), 11 NC, 12 A (io), 13 B (io), 14 NC, 15 GND2 (power), 16 Vcc2 (power)

## ISO7721DWV
designator U?
Analog: ADUM1401AR(WZ); HelpURL: L:\Dev\Техническая документация\Изоляторы\TI\iso772x.pdf
footprint SOW8_DWV0008A_11.5mmx5.8mm
pins: 1 Vdd1 (power), 2 Voa (out), 3 Vib (in), 4 GND1 (power), 5 GND2 (power), 6 Vob (out), 7 Via (in), 8 Vdd2 (power)

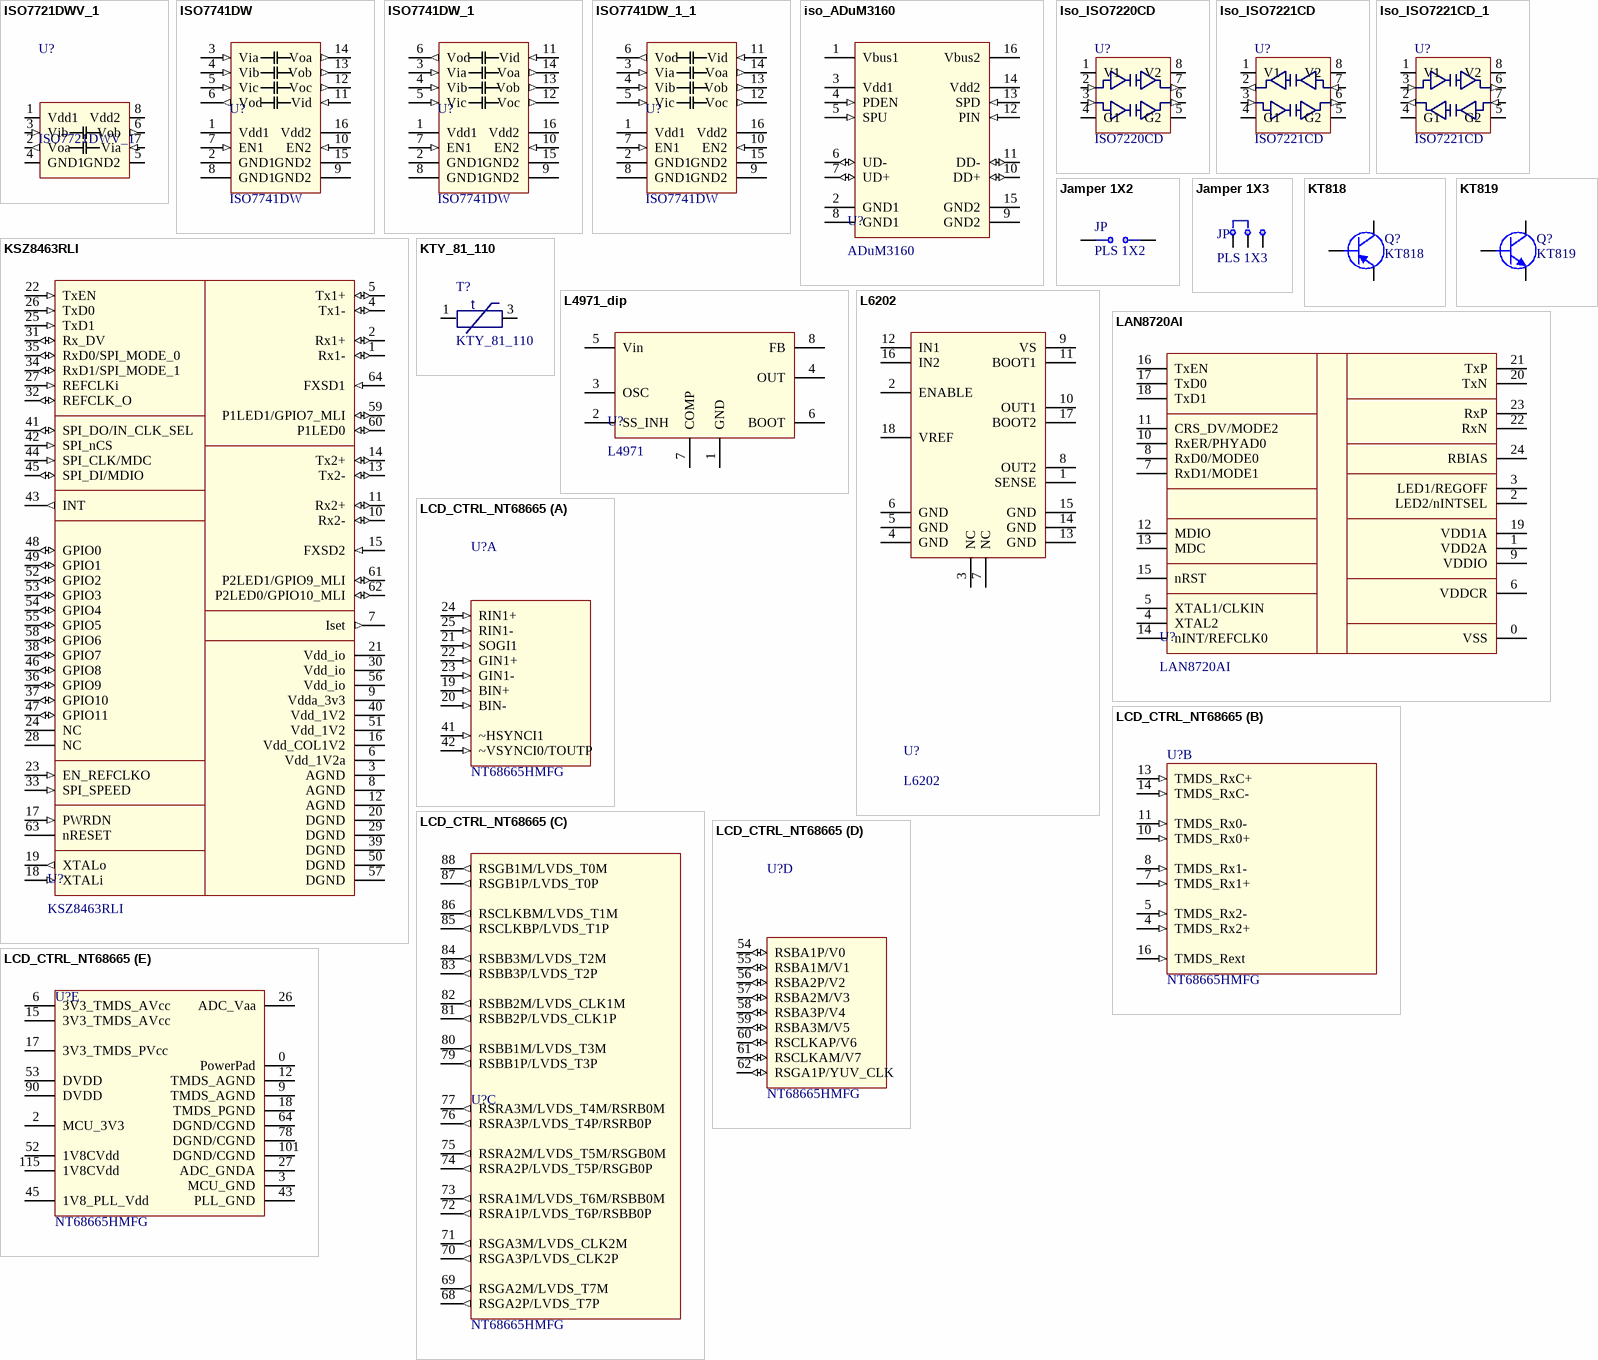
[diagram p16: symbols ISO7721DWV_1 to LCD_CTRL_NT68665]

## ISO7721DWV_1
designator U?
Analog: ADUM226N; HelpURL: L:\Dev\Техническая документация\Изоляторы\TI\iso772x.pdf
footprint SOW8_DWV0008A_11.5mmx5.8mm
pins: 1 Vdd1 (power), 2 Voa (out), 3 Vib (in), 4 GND1 (power), 5 GND2 (power), 6 Vob (out), 7 Via (in), 8 Vdd2 (power)

## ISO7741DW
designator U?
Analog: ADUM1401AR(WZ); HelpURL: L:\Dev\Техническая документация\Изоляторы\TI\iso774x.pdf
footprint SOW16
pins: 1 Vdd1 (power), 2 GND1 (power), 3 Via (in), 4 Vib (in), 5 Vic (in), 6 Vod (out), 7 EN1 (in), 8 GND1 (power), 9 GND2 (power), 10 EN2 (in), 11 Vid (in), 12 Voc (out), 13 Vob (out), 14 Voa (out), 15 GND2 (power), 16 Vdd2 (power)

## ISO7741DW_1
designator U?, comment ISO7741DW
Analog: ADUM1401AR(WZ); HelpURL: L:\Dev\Техническая документация\Изоляторы\TI\iso774x.pdf
footprint SOW16
pins: 1 Vdd1 (power), 2 GND1 (power), 3 Via (in), 4 Vib (in), 5 Vic (in), 6 Vod (out), 7 EN1 (in), 8 GND1 (power), 9 GND2 (power), 10 EN2 (in), 11 Vid (in), 12 Voc (out), 13 Vob (out), 14 Voa (out), 15 GND2 (power), 16 Vdd2 (power)

## ISO7741DW_1_1
designator U?, comment ISO7741DW
Analog: ADUM1401AR(WZ); HelpURL: L:\Dev\Техническая документация\Изоляторы\TI\iso774x.pdf
footprint SOW16
pins: 1 Vdd1 (power), 2 GND1 (power), 3 Via (in), 4 Vib (in), 5 Vic (in), 6 Vod (out), 7 EN1 (in), 8 GND1 (power), 9 GND2 (power), 10 EN2 (in), 11 Vid (in), 12 Voc (out), 13 Vob (out), 14 Voa (out), 15 GND2 (power), 16 Vdd2 (power)

## iso_ADuM3160
designator U?, comment ADuM3160
footprint SOW16
pins: 1 Vbus1 (power), 2 GND1 (power), 3 Vdd1 (power), 4 PDEN (in), 5 SPU (in), 6 UD- (io), 7 UD+ (io), 8 GND1 (power), 9 GND2 (power), 10 DD+ (io), 11 DD- (io), 12 PIN (in), 13 SPD (in), 14 Vdd2 (power), 15 GND2 (power), 16 Vbus2 (power)

## Iso_ISO7220CD
designator U?, comment ISO7220CD
Speed: 25Mbps; HelpURL: L:\Dev\Техническая документация\Изоляторы\TI\iso722x.pdf
footprint SO8
pins: 1 V1 (power), 2 +Vi1 (in), 3 +Vi2 (in), 4 G1 (power), 5 G2 (power), 6 Vo2 (out), 7 Vo1 (out), 8 V2 (power)

## Iso_ISO7221CD
designator U?, comment ISO7221CD
Speed: 25Mbps; HelpURL: L:\Dev\Техническая документация\Изоляторы\TI\iso722x.pdf
footprint SO8
pins: 1 V1 (power), 2 +Vi1 (out), 3 +Vi2 (in), 4 G1 (power), 5 G2 (power), 6 Vo2 (out), 7 Vo1 (in), 8 V2 (power)

## Iso_ISO7221CD_1
designator U?, comment ISO7221CD
Speed: 25Mbps; HelpURL: L:\Dev\Техническая документация\Изоляторы\TI\iso722x.pdf
footprint SO8
pins: 1 V1 (power), 2 +Vi1 (out), 3 +Vi2 (in), 4 G1 (power), 5 G2 (power), 6 Vo2 (out), 7 Vo1 (in), 8 V2 (power)

## Jamper 1X2
designator JP, comment PLS 1X2
footprint PLS 1X2
pins: 1, 2

## Jamper 1X3
designator JP, comment PLS 1X3
footprint PLS 1X3
pins: 1, 2, 3

## KSZ8463RLI
designator U?
Supply Current max(A): 100mA; HelpURL: L:\Dev\Техническая документация\Интерфейсы\Ethernet\Switch\KSZ8463ML_RL_FML_FRL_ds_1.0.pdf
footprint LQFP64_UNICONT
pins: 1 Rx1- (io), 2 Rx1+ (io), 3 AGND (power), 4 Tx1- (io), 5 Tx1+ (io), 6 Vdd_1V2a (power), 7 Iset (out), 8 AGND (power), 9 Vdda_3v3 (power), 10 Rx2- (io), 11 Rx2+ (io), 12 AGND (power), 13 Tx2- (io), 14 Tx2+ (io), 15 FXSD2 (in), 16 Vdd_COL1V2 (power), 17 PWRDN (in), 18 XTALi (in), 19 XTALo (out), 20 DGND (power), 21 Vdd_io (power), 22 TxEN (in), 23 EN_REFCLKO (in), 24 NC, 25 TxD1 (in), 26 TxD0 (in), 27 REFCLKi (in), 28 NC, 29 DGND (power), 30 Vdd_io (power), 31 Rx_DV (io), 32 REFCLK_O (io), 33 SPI_SPEED (in), 34 RxD1/SPI_MODE_1 (io), 35 RxD0/SPI_MODE_0 (io), 36 GPIO9 (io), 37 GPIO10 (io), 38 GPIO7 (io), 39 DGND (power), 40 Vdd_1V2 (power), 41 SPI_DO/IN_CLK_SEL (io), 42 SPI_nCS (in), 43 INT (out), 44 SPI_CLK/MDC (in), 45 SPI_DI/MDIO (io), 46 GPIO8 (io), 47 GPIO11 (io), 48 GPIO0 (io), 49 GPIO1 (io), 50 DGND (power), 51 Vdd_1V2 (power), 52 GPIO2 (io), 53 GPIO3 (io), 54 GPIO4 (io), 55 GPIO5 (io), 56 Vdd_io (power), 57 DGND (power), 58 GPIO6 (io), 59 P1LED1/GPIO7_MLI (io), 60 P1LED0 (io), 61 P2LED1/GPIO9_MLI (io), 62 P2LED0/GPIO10_MLI (io), 63 nRESET (power), 64 FXSD1 (in)

## KT818
designator Q?
NPN General-purpose Transistor; Published: 17-Sep-2003; DatasheetDocument: Jun-1999; PackageDocument: May-1999; PackageReference: SOT23; Publisher: Altium Limited
footprint TO-220AB
pins: 1 E, 2 C, 3 B

## KT819
designator Q?
NPN General-purpose Transistor; Published: 17-Sep-2003; DatasheetDocument: Jun-1999; PackageDocument: May-1999; PackageReference: SOT23; Publisher: Altium Limited
footprint TO-220AB
pins: 1 E, 2 C, 3 B

## KTY_81_110
designator T?
footprint TO-92_1-3
pins: 1, 3
text: t

## L4971_dip
designator U?, comment L4971
footprint DIP8
pins: 1 GND, 2 SS_INH, 3 OSC, 4 OUT, 5 Vin, 6 BOOT, 7 COMP, 8 FB

## L6202
designator U?
footprint DIP18
pins: 1 SENSE, 2 ENABLE, 3 NC, 4 GND, 5 GND, 6 GND, 7 NC, 8 OUT2, 9 VS, 10 OUT1, 11 BOOT1, 12 IN1, 13 GND, 14 GND, 15 GND, 16 IN2, 17 BOOT2, 18 VREF

## LAN8720AI
designator U?
footprint QFN24
pins: 0 VSS (power), 1 VDD2A (power), 2 LED2/nINTSEL (power), 3 LED1/REGOFF (power), 4 XTAL2 (power), 5 XTAL1/CLKIN (power), 6 VDDCR (power), 7 RxD1/MODE1 (power), 8 RxD0/MODE0 (power), 9 VDDIO (power), 10 RxER/PHYAD0 (power), 11 CRS_DV/MODE2 (power), 12 MDIO (power), 13 MDC (power), 14 nINT/REFCLK0 (power), 15 nRST (power), 16 TxEN (power), 17 TxD0 (power), 18 TxD1 (power), 19 VDD1A (power), 20 TxN (power), 21 TxP (power), 22 RxN (power), 23 RxP (power), 24 RBIAS (power)

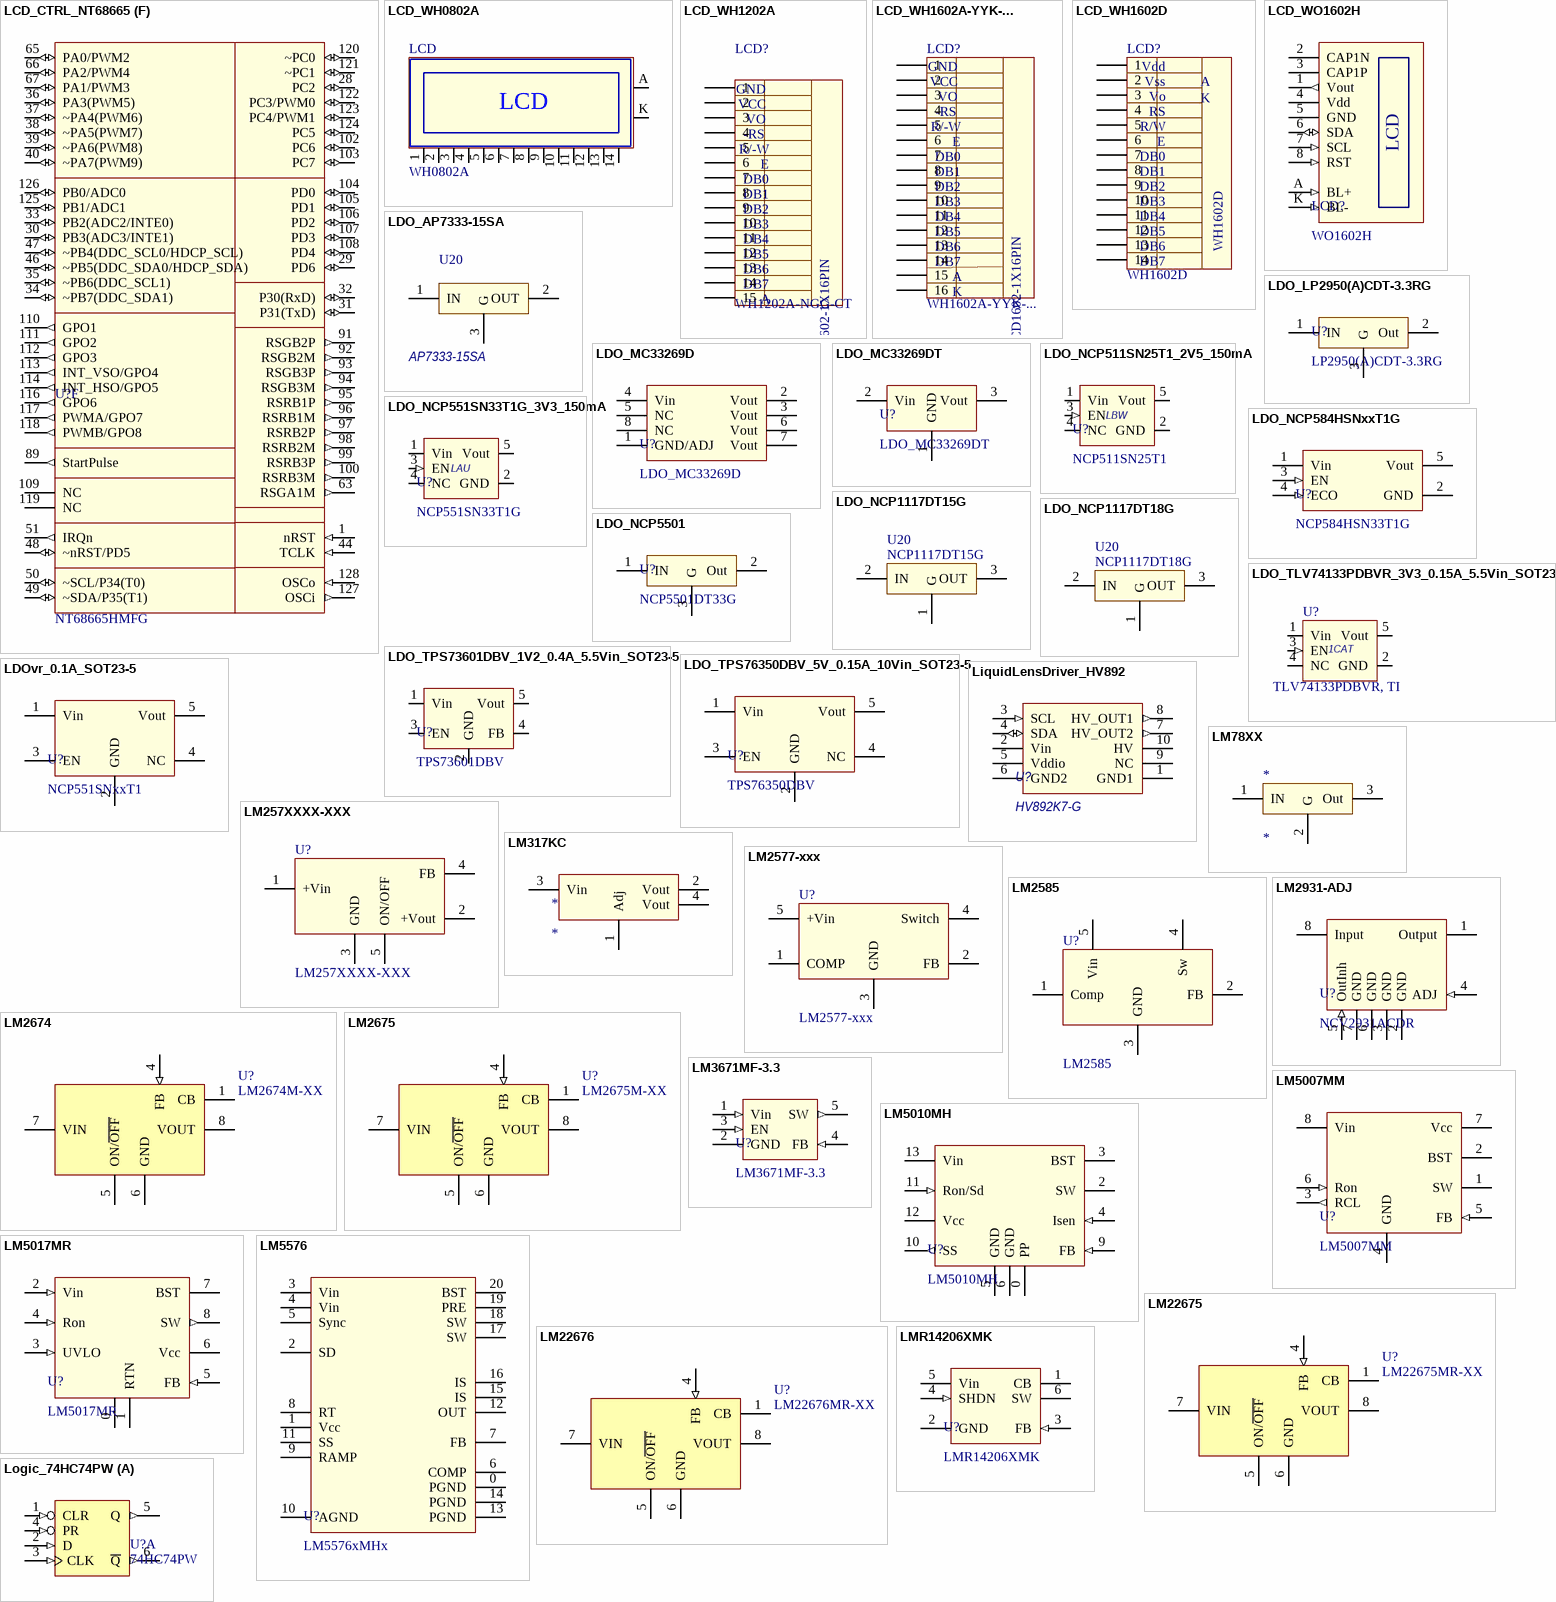
[diagram p17: symbols LCD_CTRL_NT68665 to Logic_74HC74PW]